# Altium integrated library con-molex.IntLib: 368 symbols (part 3 of 6)

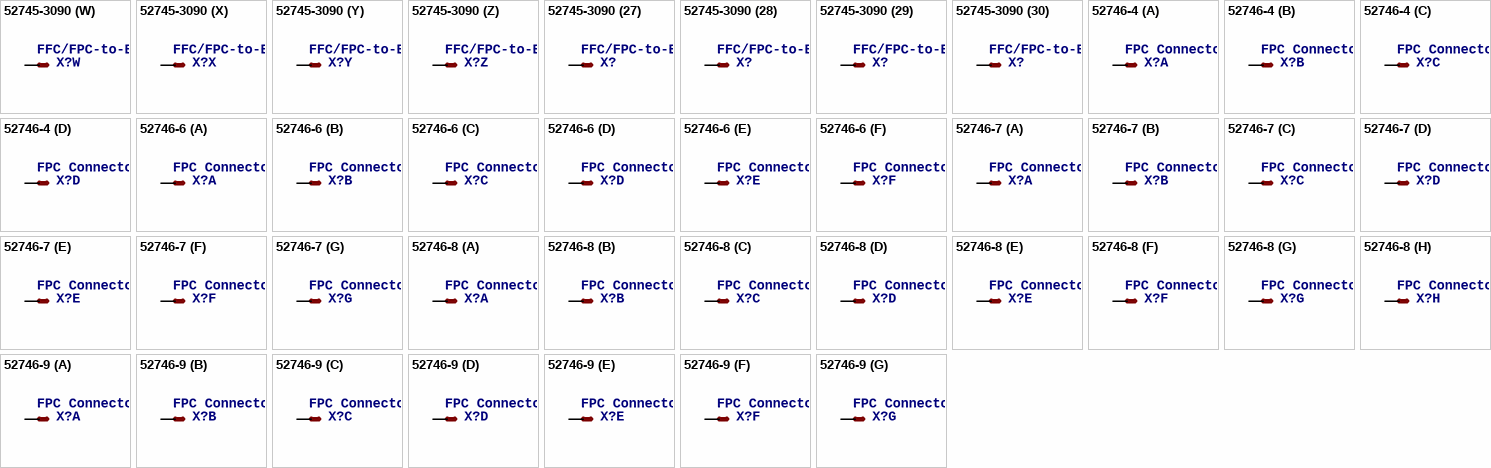
[diagram p46: symbols 52745-3090 to 52746-9]

## 52745-3090
designator X?, comment FFC/FPC-to-Board  0.50mm (.020") SMT Top Contact   Right Angle, ZIF, Style Receptacle 52745 / 52435 Source: http://www.molex.com/product/ffc/52745.html
OC_FARNELL: unknown; OC_NEWARK: unknown
footprint 52745-3090
part A pins: 1 S
part B pins: 2 S
part C pins: 3 S
part D pins: 4 S
part E pins: 5 S
part F pins: 6 S
part G pins: 7 S
part H pins: 8 S
part I pins: 9 S
part J pins: 10 S
part K pins: 11 S
part L pins: 12 S
part M pins: 13 S
part N pins: 14 S
part O pins: 15 S
part P pins: 16 S
part Q pins: 17 S
part R pins: 18 S
part S pins: 19 S
part T pins: 20 S
part U pins: 21 S
part V pins: 22 S
part W pins: 23 S
part X pins: 24 S
part Y pins: 25 S
part Z pins: 26 S
part 27 pins: 27 S
part 28 pins: 28 S
part 29 pins: 29 S
part 30 pins: 30 S

## 52746-4
designator X?, comment FPC Connector ZIF for SMT 0.5mm   Source: http://www.farnell.com/datasheets/73044.pdf [DWG. NO. (Sheet 1 OF 2) SD-52746-**17]
MPN: 52746-442; OC_FARNELL: unknown; OC_NEWARK: 55R0391
footprint 52746-4
part A pins: 1 S
part B pins: 2 S
part C pins: 3 S
part D pins: 4 S

## 52746-6
designator X?, comment FPC Connector ZIF for SMT 0.5mm   Source: http://www.farnell.com/datasheets/73044.pdf [DWG. NO. (Sheet 1 OF 2) SD-52746-**17]
OC_FARNELL: unknown; OC_NEWARK: unknown
footprint 52746-6
part A pins: 1 S
part B pins: 2 S
part C pins: 3 S
part D pins: 4 S
part E pins: 5 S
part F pins: 6 S

## 52746-7
designator X?, comment FPC Connector ZIF for SMT 0.5mm   Source: http://www.farnell.com/datasheets/73044.pdf [DWG. NO. (Sheet 1 OF 2) SD-52746-**17]
OC_FARNELL: unknown; OC_NEWARK: unknown
footprint 52746-7
part A pins: 1 S
part B pins: 2 S
part C pins: 3 S
part D pins: 4 S
part E pins: 5 S
part F pins: 6 S
part G pins: 7 S

## 52746-8
designator X?, comment FPC Connector ZIF for SMT 0.5mm   Source: http://www.farnell.com/datasheets/73044.pdf [DWG. NO. (Sheet 1 OF 2) SD-52746-**17]
OC_FARNELL: unknown; OC_NEWARK: unknown
footprint 52746-8
part A pins: 1 S
part B pins: 2 S
part C pins: 3 S
part D pins: 4 S
part E pins: 5 S
part F pins: 6 S
part G pins: 7 S
part H pins: 8 S

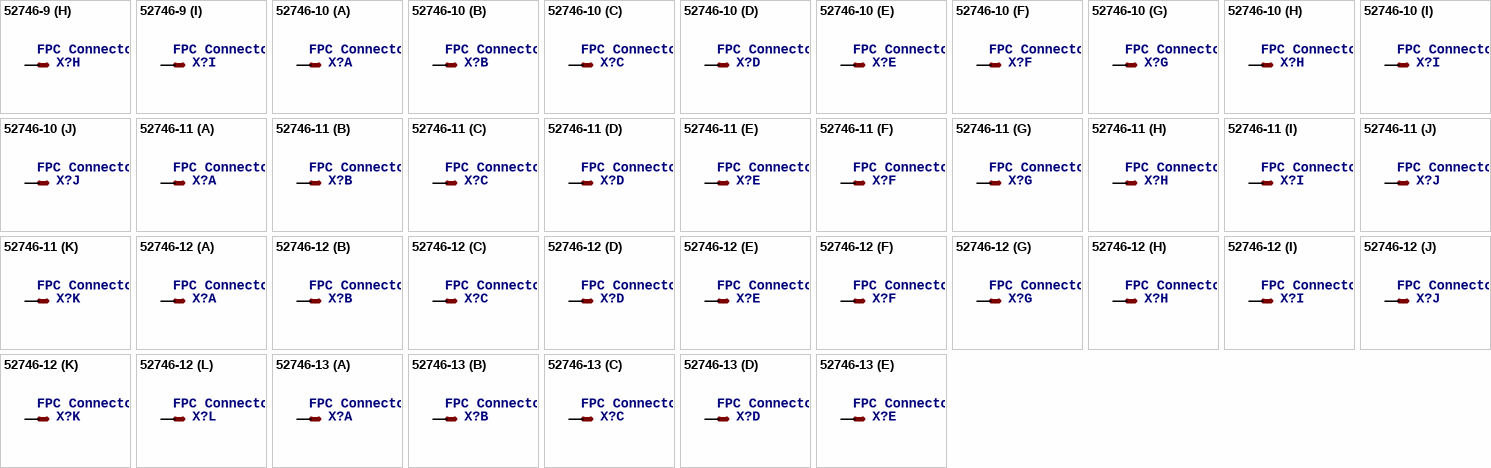
[diagram p47: symbols 52746-9 to 52746-13]

## 52746-9
designator X?, comment FPC Connector ZIF for SMT 0.5mm   Source: http://www.farnell.com/datasheets/73044.pdf [DWG. NO. (Sheet 1 OF 2) SD-52746-**17]
OC_FARNELL: unknown; OC_NEWARK: unknown
footprint 52746-9
part A pins: 1 S
part B pins: 2 S
part C pins: 3 S
part D pins: 4 S
part E pins: 5 S
part F pins: 6 S
part G pins: 7 S
part H pins: 8 S
part I pins: 9 S

## 52746-10
designator X?, comment FPC Connector ZIF for SMT 0.5mm   Source: http://www.farnell.com/datasheets/73044.pdf [DWG. NO. (Sheet 1 OF 2) SD-52746-**17]
OC_FARNELL: 1827154; OC_NEWARK: unknown
footprint 52746-10
part A pins: 1 S
part B pins: 2 S
part C pins: 3 S
part D pins: 4 S
part E pins: 5 S
part F pins: 6 S
part G pins: 7 S
part H pins: 8 S
part I pins: 9 S
part J pins: 10 S

## 52746-11
designator X?, comment FPC Connector ZIF for SMT 0.5mm   Source: http://www.farnell.com/datasheets/73044.pdf [DWG. NO. (Sheet 1 OF 2) SD-52746-**17]
OC_FARNELL: unknown; OC_NEWARK: unknown
footprint 52746-11
part A pins: 1 S
part B pins: 2 S
part C pins: 3 S
part D pins: 4 S
part E pins: 5 S
part F pins: 6 S
part G pins: 7 S
part H pins: 8 S
part I pins: 9 S
part J pins: 10 S
part K pins: 11 S

## 52746-12
designator X?, comment FPC Connector ZIF for SMT 0.5mm   Source: http://www.farnell.com/datasheets/73044.pdf [DWG. NO. (Sheet 1 OF 2) SD-52746-**17]
OC_FARNELL: unknown; OC_NEWARK: unknown
footprint 52746-12
part A pins: 1 S
part B pins: 2 S
part C pins: 3 S
part D pins: 4 S
part E pins: 5 S
part F pins: 6 S
part G pins: 7 S
part H pins: 8 S
part I pins: 9 S
part J pins: 10 S
part K pins: 11 S
part L pins: 12 S

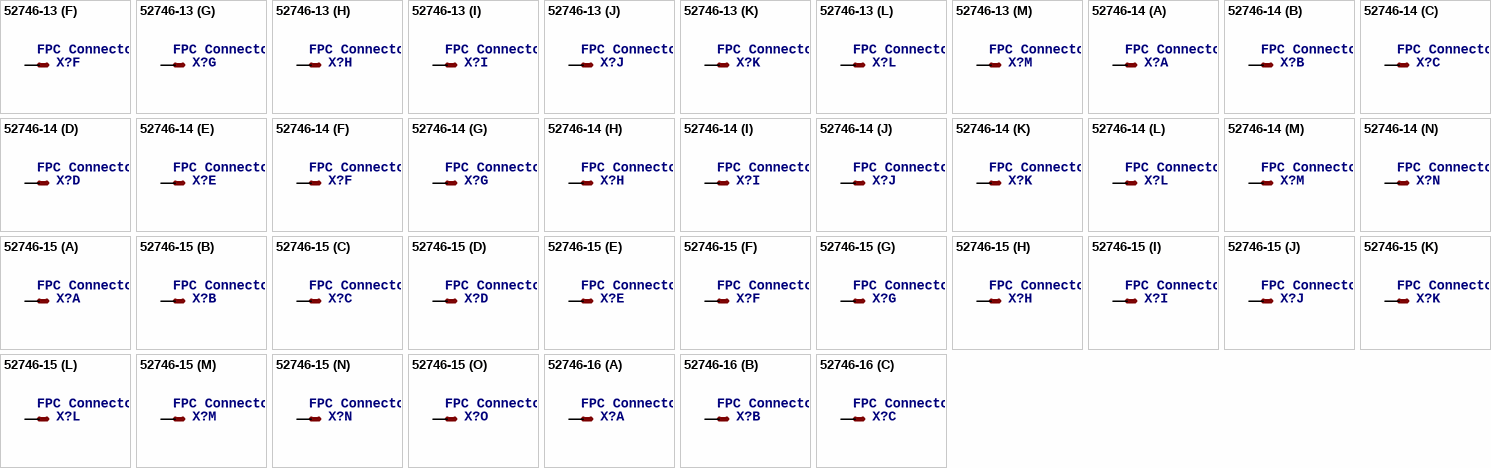
[diagram p48: symbols 52746-13 to 52746-16]

## 52746-13
designator X?, comment FPC Connector ZIF for SMT 0.5mm   Source: http://www.farnell.com/datasheets/73044.pdf [DWG. NO. (Sheet 1 OF 2) SD-52746-**17]
OC_FARNELL: unknown; OC_NEWARK: unknown
footprint 52746-13
part A pins: 1 S
part B pins: 2 S
part C pins: 3 S
part D pins: 4 S
part E pins: 5 S
part F pins: 6 S
part G pins: 7 S
part H pins: 8 S
part I pins: 9 S
part J pins: 10 S
part K pins: 11 S
part L pins: 12 S
part M pins: 13 S

## 52746-14
designator X?, comment FPC Connector ZIF for SMT 0.5mm   Source: http://www.farnell.com/datasheets/73044.pdf [DWG. NO. (Sheet 1 OF 2) SD-52746-**17]
OC_FARNELL: unknown; OC_NEWARK: unknown
footprint 52746-14
part A pins: 1 S
part B pins: 2 S
part C pins: 3 S
part D pins: 4 S
part E pins: 5 S
part F pins: 6 S
part G pins: 7 S
part H pins: 8 S
part I pins: 9 S
part J pins: 10 S
part K pins: 11 S
part L pins: 12 S
part M pins: 13 S
part N pins: 14 S

## 52746-15
designator X?, comment FPC Connector ZIF for SMT 0.5mm   Source: http://www.farnell.com/datasheets/73044.pdf [DWG. NO. (Sheet 1 OF 2) SD-52746-**17]
OC_FARNELL: unknown; OC_NEWARK: unknown
footprint 52746-15
part A pins: 1 S
part B pins: 2 S
part C pins: 3 S
part D pins: 4 S
part E pins: 5 S
part F pins: 6 S
part G pins: 7 S
part H pins: 8 S
part I pins: 9 S
part J pins: 10 S
part K pins: 11 S
part L pins: 12 S
part M pins: 13 S
part N pins: 14 S
part O pins: 15 S

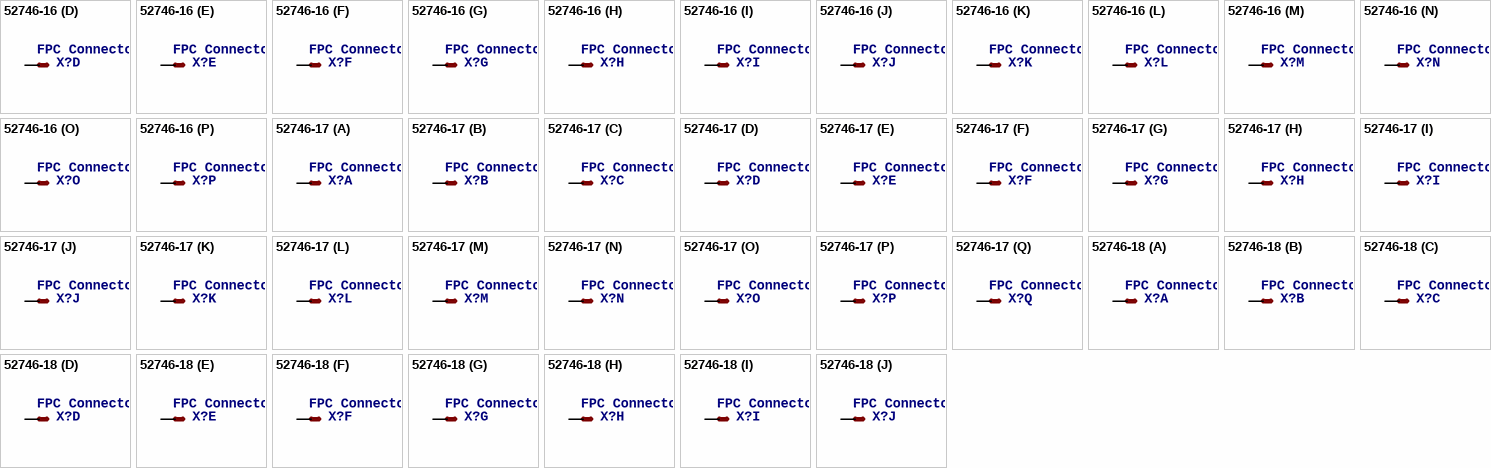
[diagram p49: symbols 52746-16 to 52746-18]

## 52746-16
designator X?, comment FPC Connector ZIF for SMT 0.5mm   Source: http://www.farnell.com/datasheets/73044.pdf [DWG. NO. (Sheet 1 OF 2) SD-52746-**17]
OC_FARNELL: unknown; OC_NEWARK: unknown
footprint 52746-16
part A pins: 1 S
part B pins: 2 S
part C pins: 3 S
part D pins: 4 S
part E pins: 5 S
part F pins: 6 S
part G pins: 7 S
part H pins: 8 S
part I pins: 9 S
part J pins: 10 S
part K pins: 11 S
part L pins: 12 S
part M pins: 13 S
part N pins: 14 S
part O pins: 15 S
part P pins: 16 S

## 52746-17
designator X?, comment FPC Connector ZIF for SMT 0.5mm   Source: http://www.farnell.com/datasheets/73044.pdf [DWG. NO. (Sheet 1 OF 2) SD-52746-**17]
MPN: 52746-1770; OC_FARNELL: unknown; OC_NEWARK: 92M6419
footprint 52746-17
part A pins: 1 S
part B pins: 2 S
part C pins: 3 S
part D pins: 4 S
part E pins: 5 S
part F pins: 6 S
part G pins: 7 S
part H pins: 8 S
part I pins: 9 S
part J pins: 10 S
part K pins: 11 S
part L pins: 12 S
part M pins: 13 S
part N pins: 14 S
part O pins: 15 S
part P pins: 16 S
part Q pins: 17 S

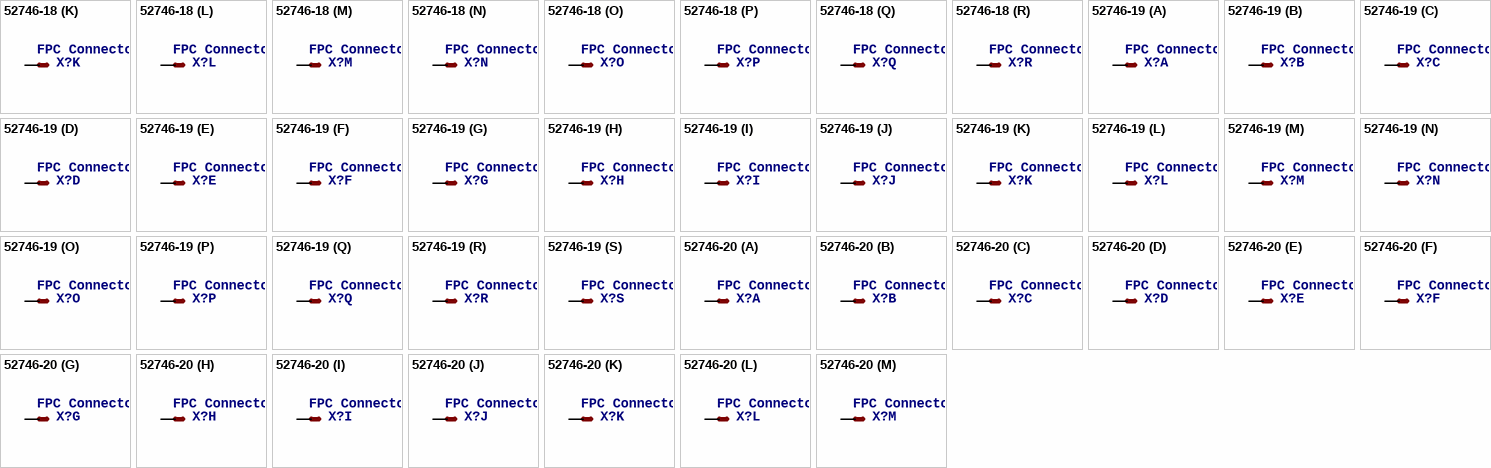
[diagram p50: symbols 52746-18 to 52746-20]

## 52746-18
designator X?, comment FPC Connector ZIF for SMT 0.5mm   Source: http://www.farnell.com/datasheets/73044.pdf [DWG. NO. (Sheet 1 OF 2) SD-52746-**17]
MPN: 52746-1870; OC_FARNELL: unknown; OC_NEWARK: 92M6420
footprint 52746-18
part A pins: 1 S
part B pins: 2 S
part C pins: 3 S
part D pins: 4 S
part E pins: 5 S
part F pins: 6 S
part G pins: 7 S
part H pins: 8 S
part I pins: 9 S
part J pins: 10 S
part K pins: 11 S
part L pins: 12 S
part M pins: 13 S
part N pins: 14 S
part O pins: 15 S
part P pins: 16 S
part Q pins: 17 S
part R pins: 18 S

## 52746-19
designator X?, comment FPC Connector ZIF for SMT 0.5mm   Source: http://www.farnell.com/datasheets/73044.pdf [DWG. NO. (Sheet 1 OF 2) SD-52746-**17]
MPN: 52746-1970; OC_FARNELL: unknown; OC_NEWARK: 92M6422
footprint 52746-19
part A pins: 1 S
part B pins: 2 S
part C pins: 3 S
part D pins: 4 S
part E pins: 5 S
part F pins: 6 S
part G pins: 7 S
part H pins: 8 S
part I pins: 9 S
part J pins: 10 S
part K pins: 11 S
part L pins: 12 S
part M pins: 13 S
part N pins: 14 S
part O pins: 15 S
part P pins: 16 S
part Q pins: 17 S
part R pins: 18 S
part S pins: 19 S

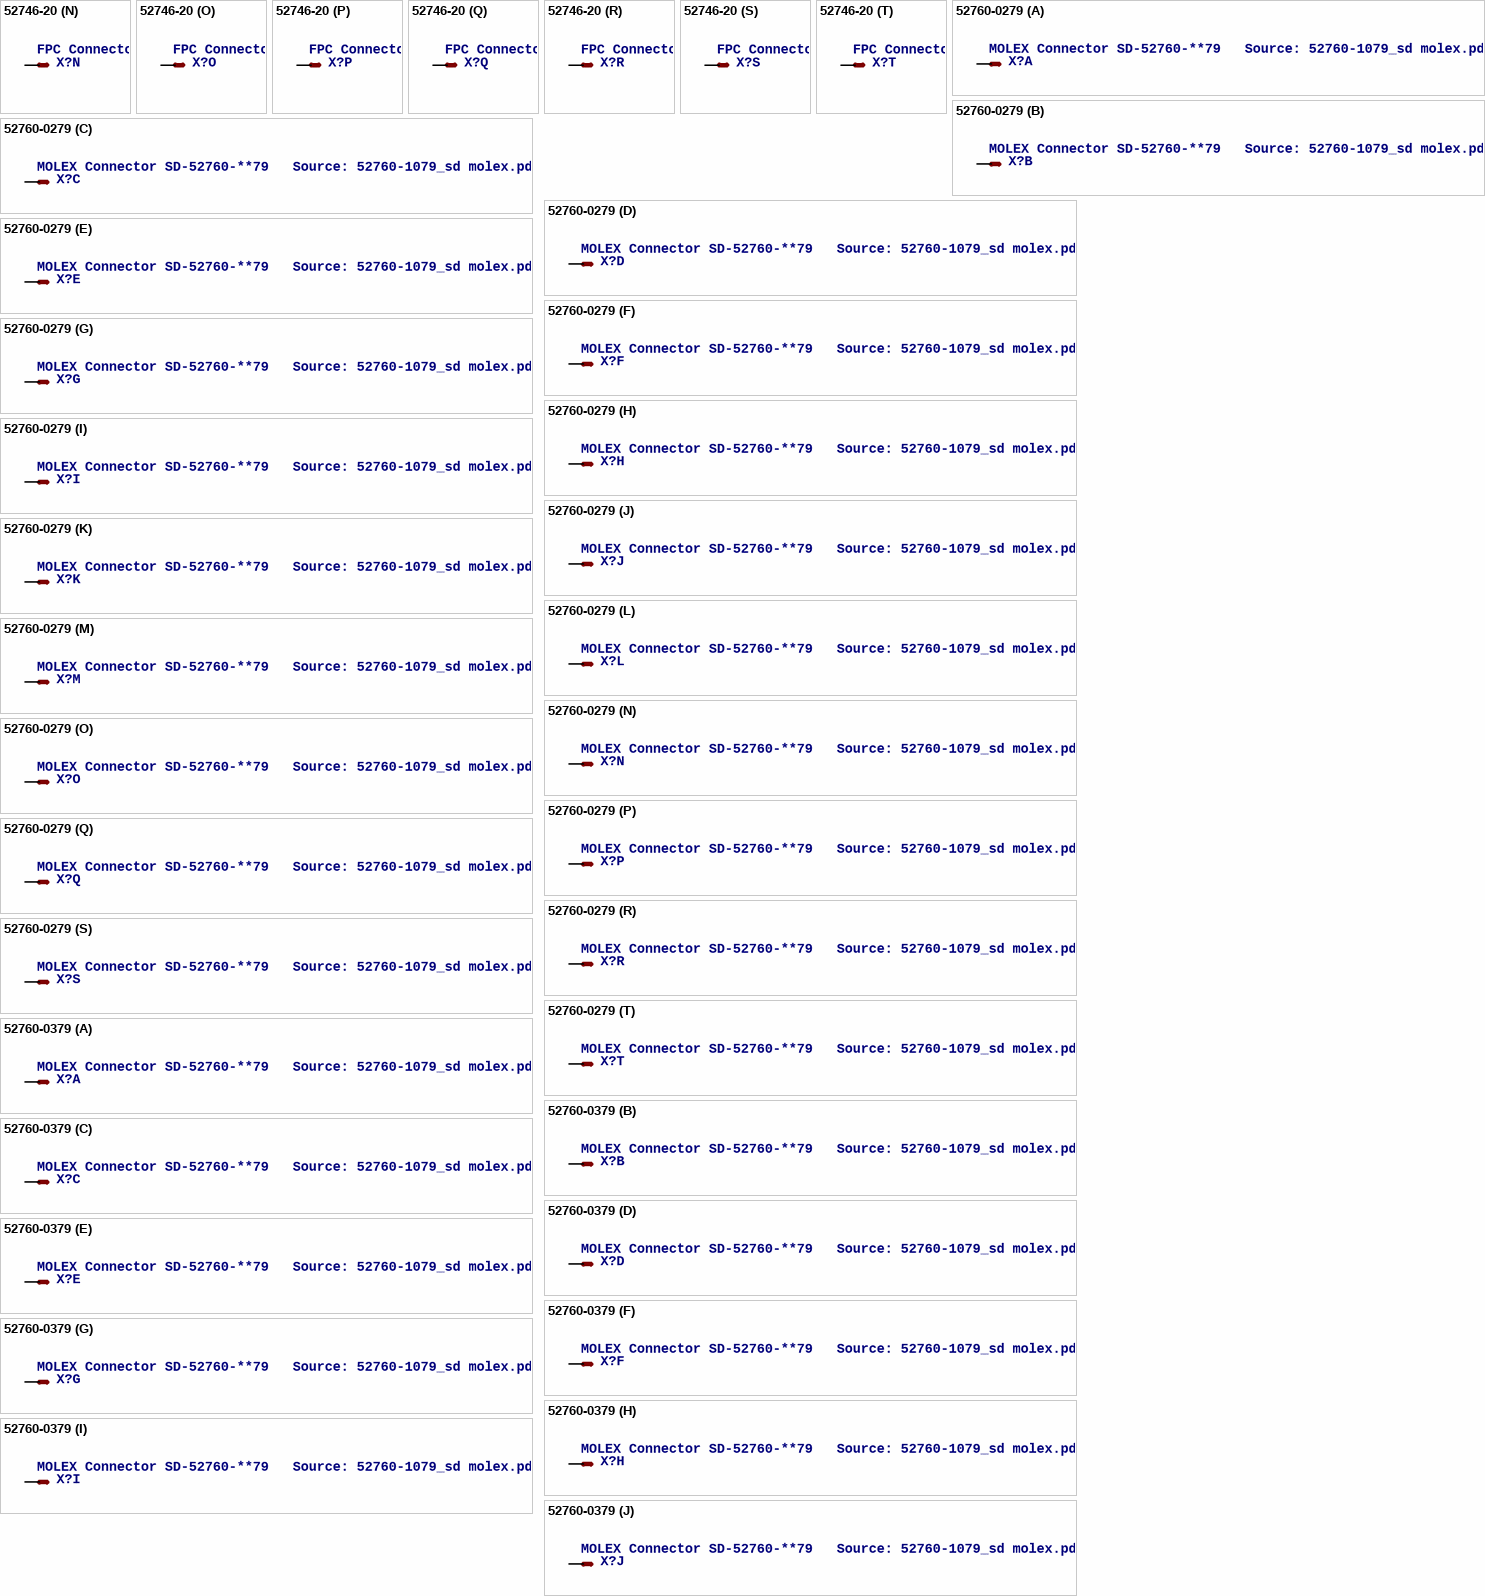
[diagram p51: symbols 52746-20 to 52760-0379]

## 52746-20
designator X?, comment FPC Connector ZIF for SMT 0.5mm   Source: http://www.farnell.com/datasheets/73044.pdf [DWG. NO. (Sheet 1 OF 2) SD-52746-**17] Distributor: Farnell 9786350
OC_FARNELL: 9786350; OC_NEWARK: unknown
footprint 52746-20
part A pins: 1 S
part B pins: 2 S
part C pins: 3 S
part D pins: 4 S
part E pins: 5 S
part F pins: 6 S
part G pins: 7 S
part H pins: 8 S
part I pins: 9 S
part J pins: 10 S
part K pins: 11 S
part L pins: 12 S
part M pins: 13 S
part N pins: 14 S
part O pins: 15 S
part P pins: 16 S
part Q pins: 17 S
part R pins: 18 S
part S pins: 19 S
part T pins: 20 S

## 52760-0279
designator X?, comment MOLEX Connector SD-52760-**79   Source: 52760-1079_sd molex.pdf
MPN: 52760-0279; OC_FARNELL: unknown; OC_NEWARK: 92M6430
footprint 52760-0279
part A pins: 1 S
part B pins: 2 S
part C pins: 3 S
part D pins: 4 S
part E pins: 5 S
part F pins: 6 S
part G pins: 7 S
part H pins: 8 S
part I pins: 9 S
part J pins: 10 S
part K pins: 11 S
part L pins: 12 S
part M pins: 13 S
part N pins: 14 S
part O pins: 15 S
part P pins: 16 S
part Q pins: 17 S
part R pins: 18 S
part S pins: 19 S
part T pins: 20 S

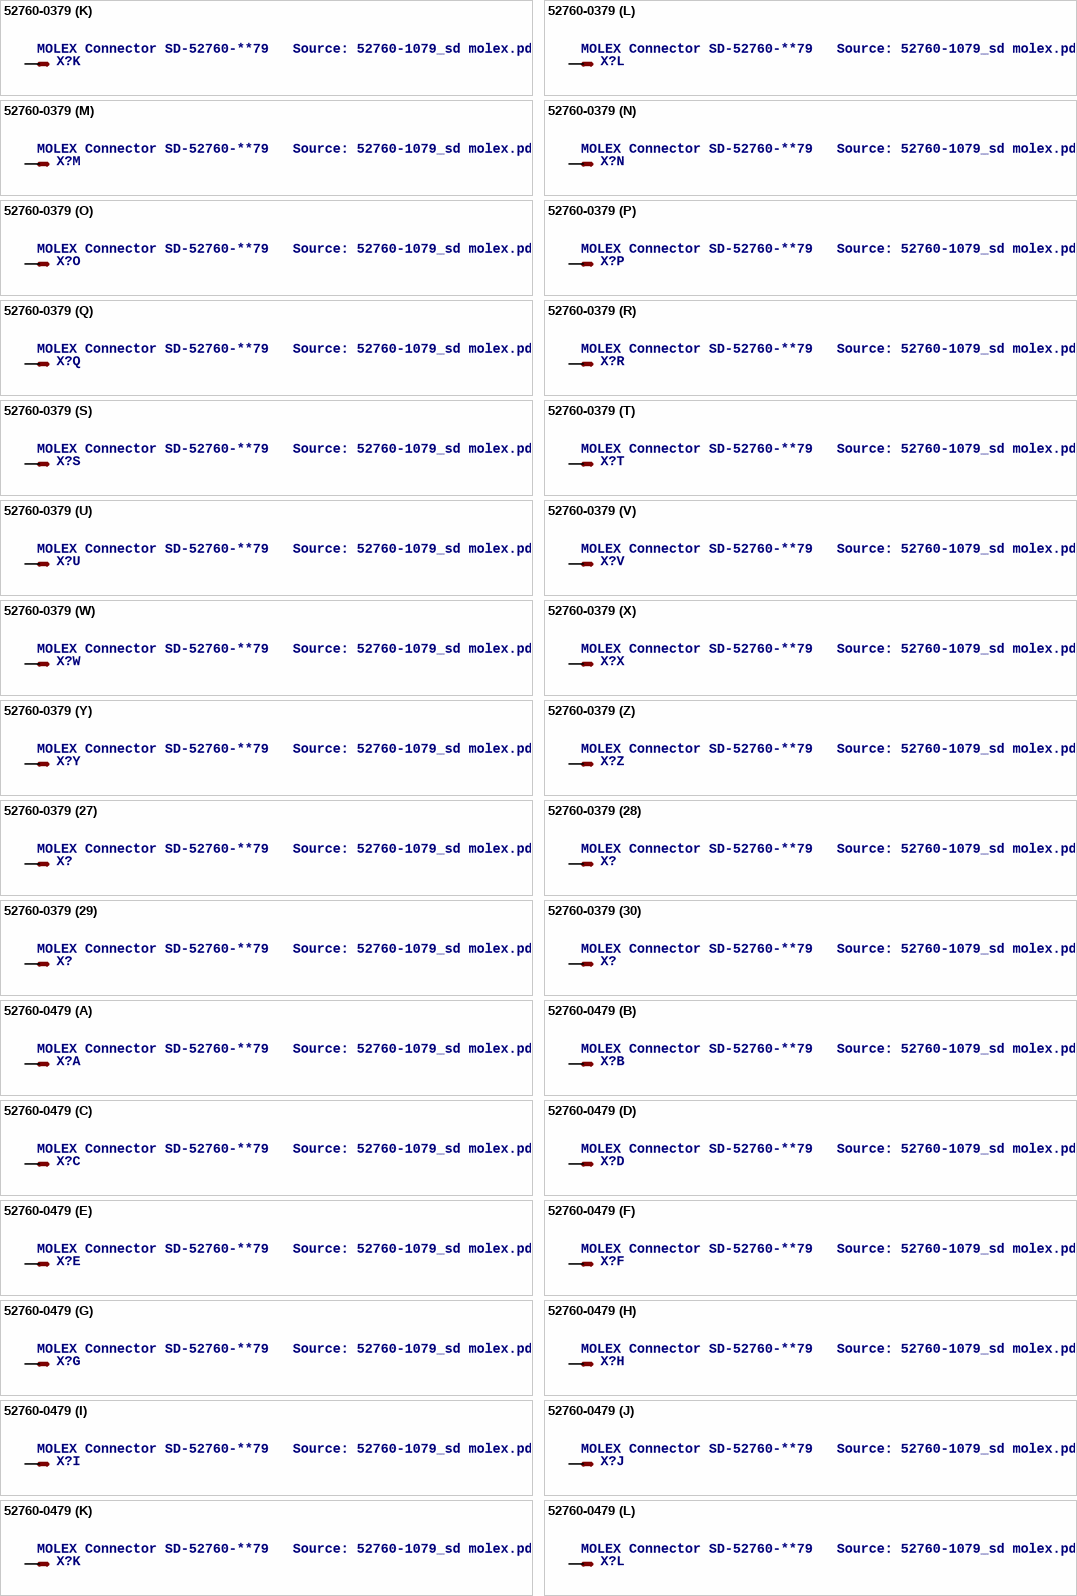
[diagram p52: symbols 52760-0379 to 52760-0479]

## 52760-0379
designator X?, comment MOLEX Connector SD-52760-**79   Source: 52760-1079_sd molex.pdf
MPN: 52760-0379; OC_FARNELL: unknown; OC_NEWARK: 92M6431
footprint 52760-0379
part A pins: 1 S
part B pins: 2 S
part C pins: 3 S
part D pins: 4 S
part E pins: 5 S
part F pins: 6 S
part G pins: 7 S
part H pins: 8 S
part I pins: 9 S
part J pins: 10 S
part K pins: 11 S
part L pins: 12 S
part M pins: 13 S
part N pins: 14 S
part O pins: 15 S
part P pins: 16 S
part Q pins: 17 S
part R pins: 18 S
part S pins: 19 S
part T pins: 20 S
part U pins: 21 S
part V pins: 22 S
part W pins: 23 S
part X pins: 24 S
part Y pins: 25 S
part Z pins: 26 S
part 27 pins: 27 S
part 28 pins: 28 S
part 29 pins: 29 S
part 30 pins: 30 S

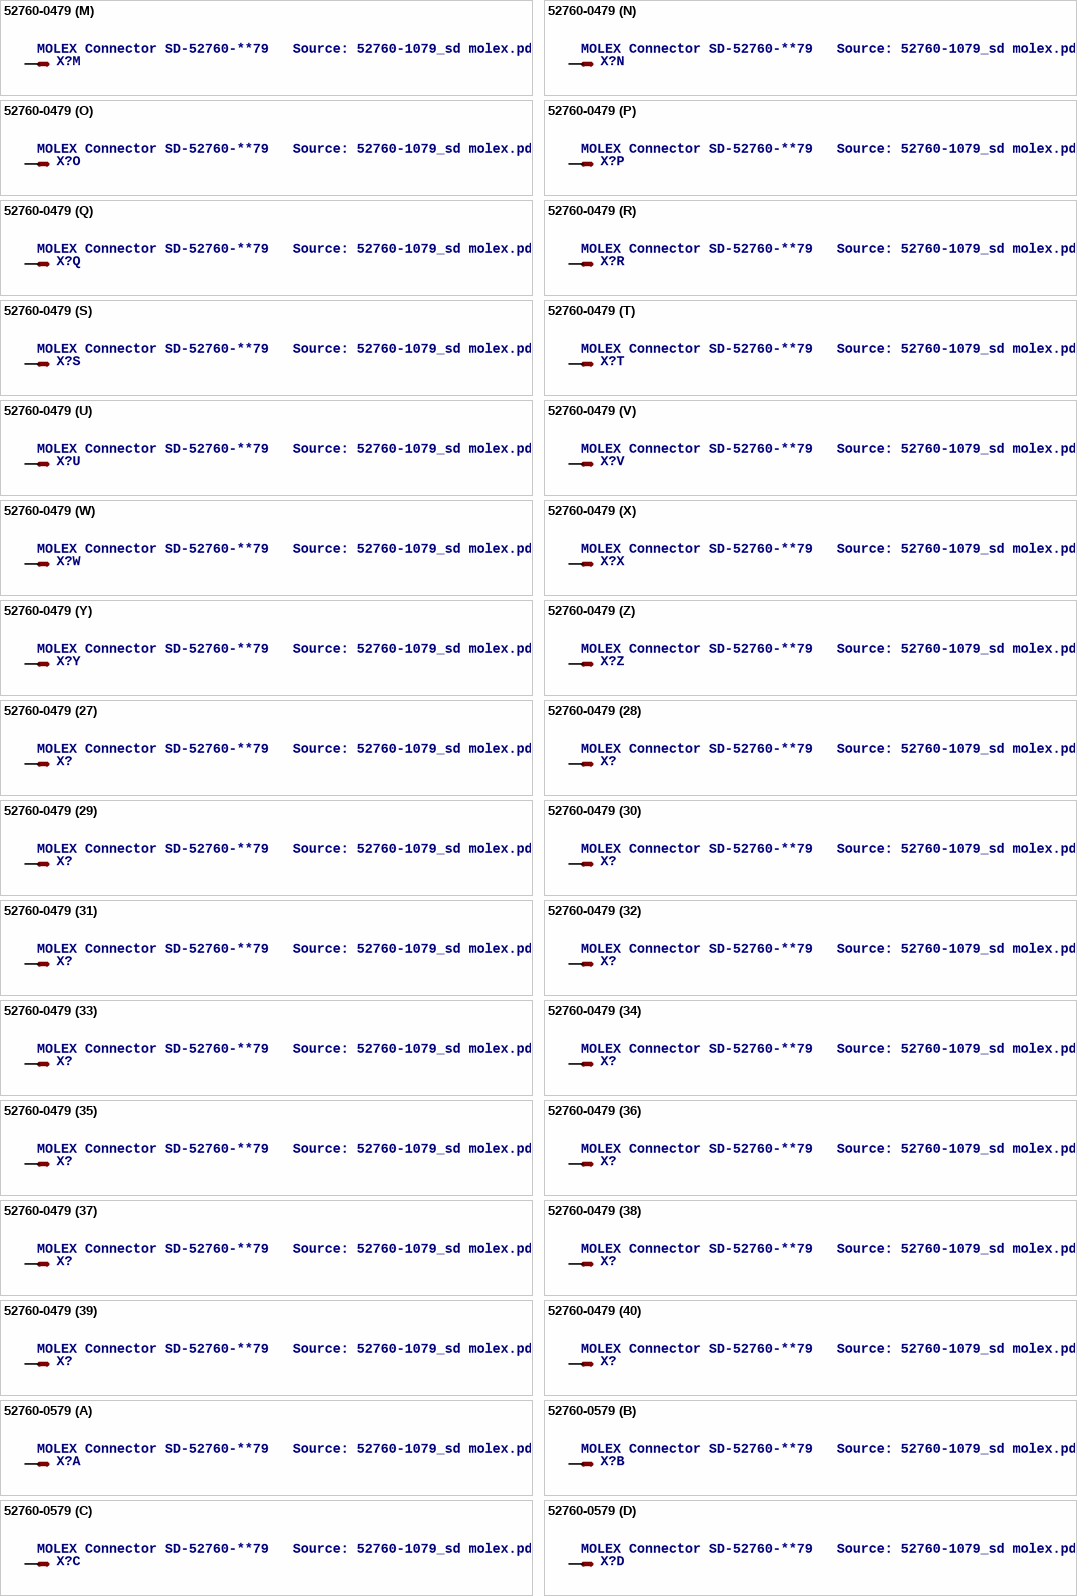
[diagram p53: symbols 52760-0479 to 52760-0579]

## 52760-0479
designator X?, comment MOLEX Connector SD-52760-**79   Source: 52760-1079_sd molex.pdf
OC_FARNELL: unknown; OC_NEWARK: unknown
footprint 52760-0479
part A pins: 1 S
part B pins: 2 S
part C pins: 3 S
part D pins: 4 S
part E pins: 5 S
part F pins: 6 S
part G pins: 7 S
part H pins: 8 S
part I pins: 9 S
part J pins: 10 S
part K pins: 11 S
part L pins: 12 S
part M pins: 13 S
part N pins: 14 S
part O pins: 15 S
part P pins: 16 S
part Q pins: 17 S
part R pins: 18 S
part S pins: 19 S
part T pins: 20 S
part U pins: 21 S
part V pins: 22 S
part W pins: 23 S
part X pins: 24 S
part Y pins: 25 S
part Z pins: 26 S
part 27 pins: 27 S
part 28 pins: 28 S
part 29 pins: 29 S
part 30 pins: 30 S
part 31 pins: 31 S
part 32 pins: 32 S
part 33 pins: 33 S
part 34 pins: 34 S
part 35 pins: 35 S
part 36 pins: 36 S
part 37 pins: 37 S
part 38 pins: 38 S
part 39 pins: 39 S
part 40 pins: 40 S

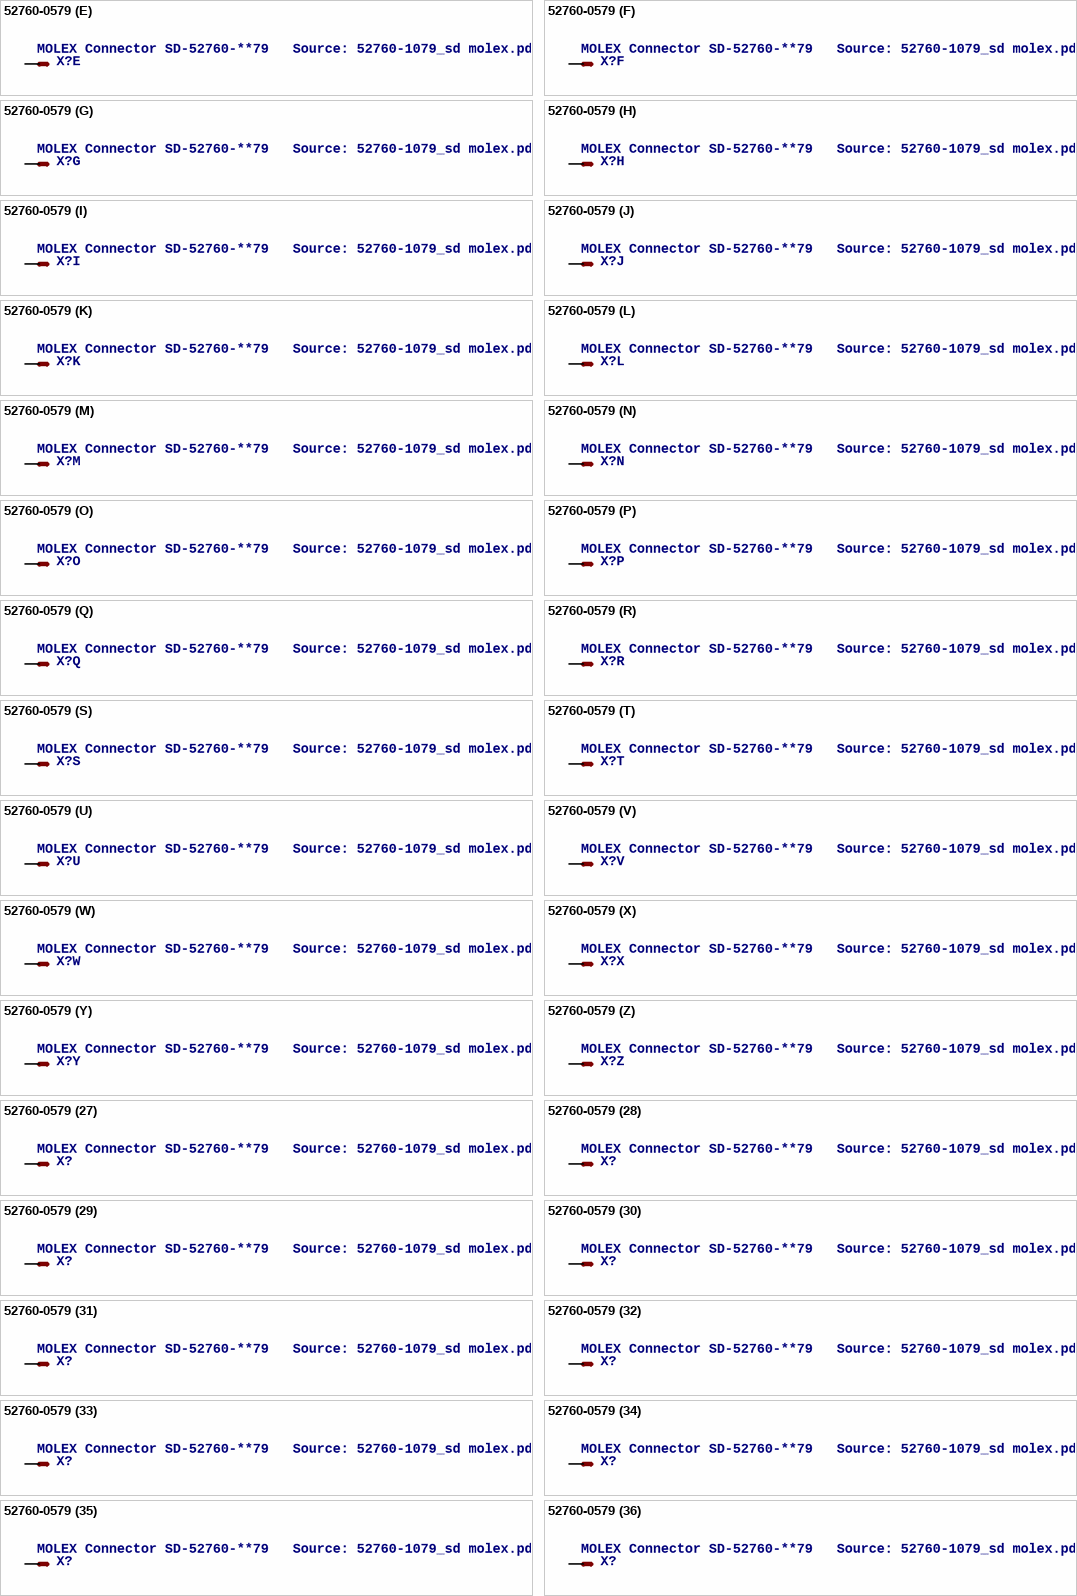
[diagram p54: symbol 52760-0579]

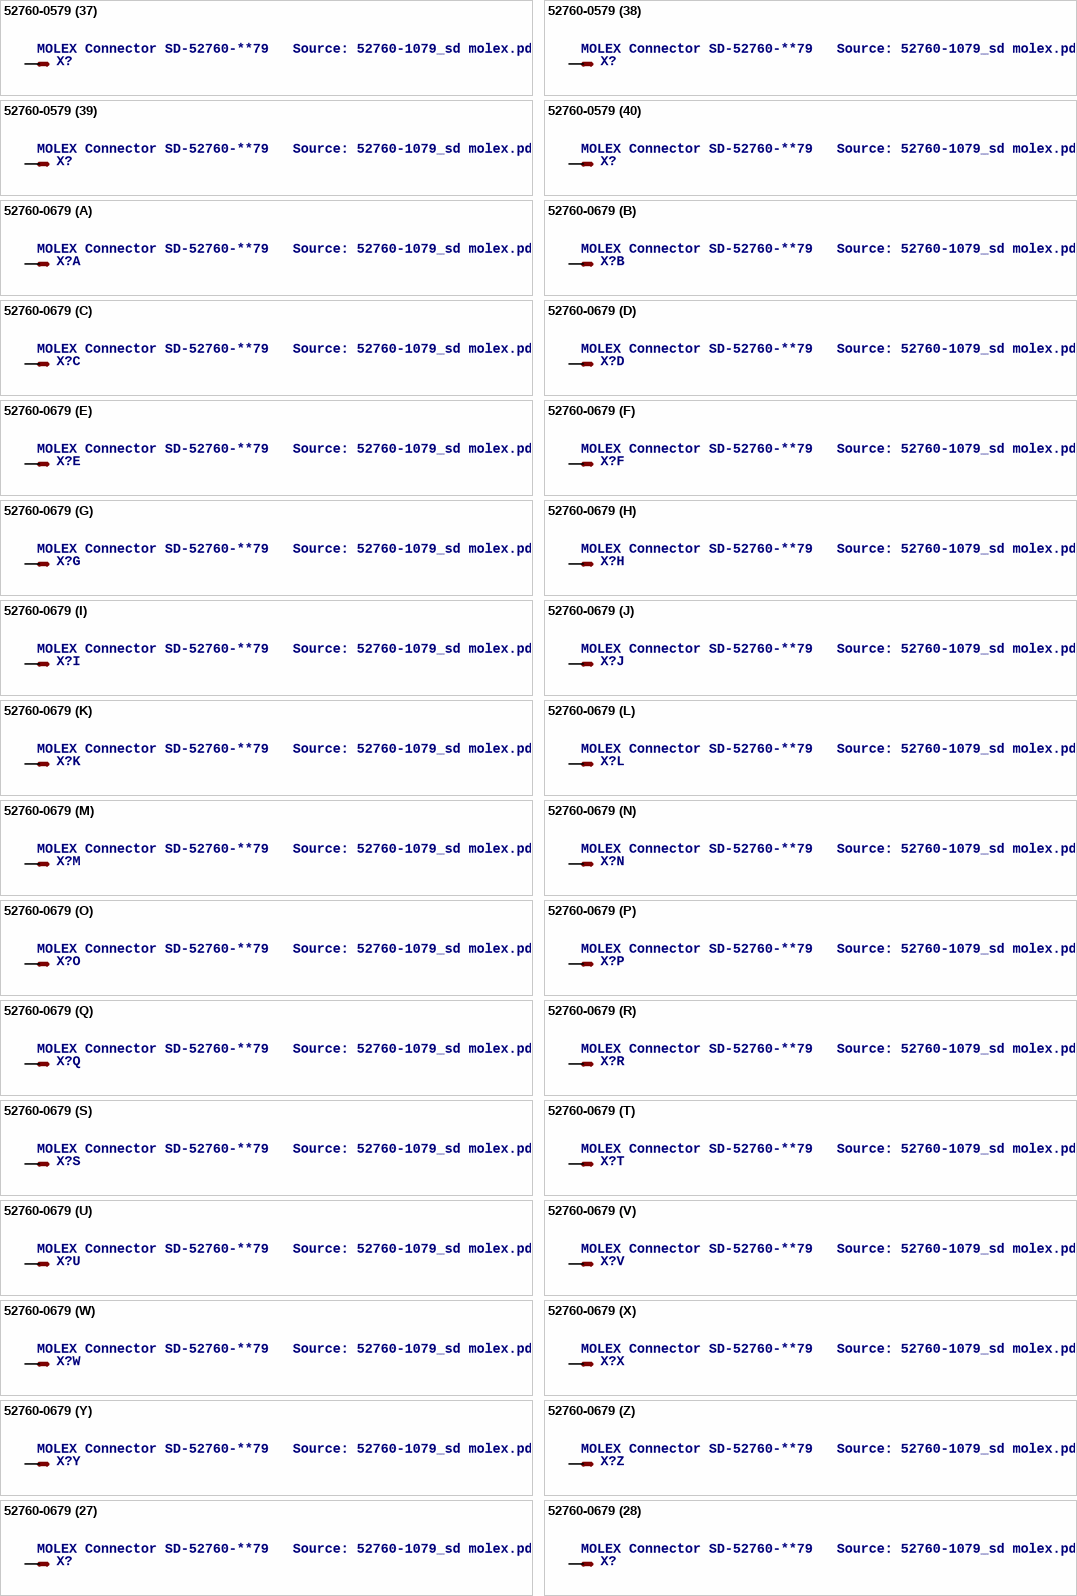
[diagram p55: symbols 52760-0579 to 52760-0679]

## 52760-0579
designator X?, comment MOLEX Connector SD-52760-**79   Source: 52760-1079_sd molex.pdf
OC_FARNELL: unknown; OC_NEWARK: unknown
footprint 52760-0579
part A pins: 1 S
part B pins: 2 S
part C pins: 3 S
part D pins: 4 S
part E pins: 5 S
part F pins: 6 S
part G pins: 7 S
part H pins: 8 S
part I pins: 9 S
part J pins: 10 S
part K pins: 11 S
part L pins: 12 S
part M pins: 13 S
part N pins: 14 S
part O pins: 15 S
part P pins: 16 S
part Q pins: 17 S
part R pins: 18 S
part S pins: 19 S
part T pins: 20 S
part U pins: 21 S
part V pins: 22 S
part W pins: 23 S
part X pins: 24 S
part Y pins: 25 S
part Z pins: 26 S
part 27 pins: 27 S
part 28 pins: 28 S
part 29 pins: 29 S
part 30 pins: 30 S
part 31 pins: 31 S
part 32 pins: 32 S
part 33 pins: 33 S
part 34 pins: 34 S
part 35 pins: 35 S
part 36 pins: 36 S
part 37 pins: 37 S
part 38 pins: 38 S
part 39 pins: 39 S
part 40 pins: 40 S
part 41 pins: 41 S
part 42 pins: 42 S
part 43 pins: 43 S
part 44 pins: 44 S
part 45 pins: 45 S
part 46 pins: 46 S
part 47 pins: 47 S
part 48 pins: 48 S
part 49 pins: 49 S
part 50 pins: 50 S

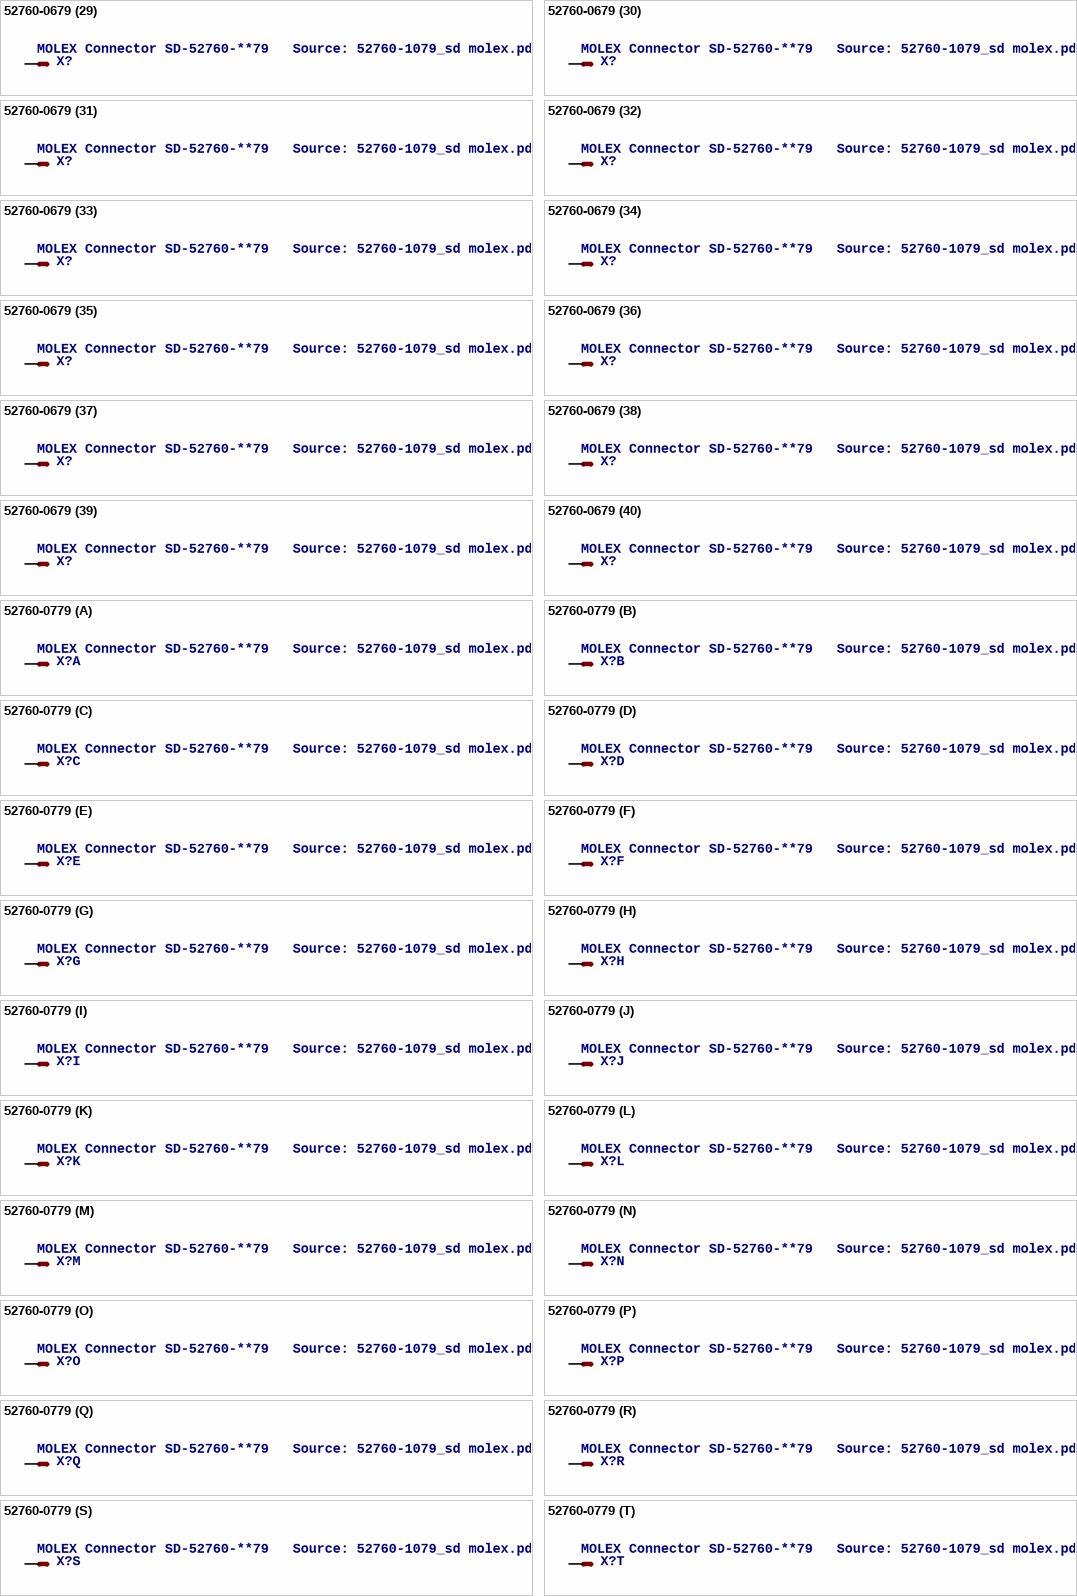
[diagram p56: symbols 52760-0679 to 52760-0779]

## 52760-0679
designator X?, comment MOLEX Connector SD-52760-**79   Source: 52760-1079_sd molex.pdf
OC_FARNELL: unknown; OC_NEWARK: unknown
footprint 52760-0679
part A pins: 1 S
part B pins: 2 S
part C pins: 3 S
part D pins: 4 S
part E pins: 5 S
part F pins: 6 S
part G pins: 7 S
part H pins: 8 S
part I pins: 9 S
part J pins: 10 S
part K pins: 11 S
part L pins: 12 S
part M pins: 13 S
part N pins: 14 S
part O pins: 15 S
part P pins: 16 S
part Q pins: 17 S
part R pins: 18 S
part S pins: 19 S
part T pins: 20 S
part U pins: 21 S
part V pins: 22 S
part W pins: 23 S
part X pins: 24 S
part Y pins: 25 S
part Z pins: 26 S
part 27 pins: 27 S
part 28 pins: 28 S
part 29 pins: 29 S
part 30 pins: 30 S
part 31 pins: 31 S
part 32 pins: 32 S
part 33 pins: 33 S
part 34 pins: 34 S
part 35 pins: 35 S
part 36 pins: 36 S
part 37 pins: 37 S
part 38 pins: 38 S
part 39 pins: 39 S
part 40 pins: 40 S
part 41 pins: 41 S
part 42 pins: 42 S
part 43 pins: 43 S
part 44 pins: 44 S
part 45 pins: 45 S
part 46 pins: 46 S
part 47 pins: 47 S
part 48 pins: 48 S
part 49 pins: 49 S
part 50 pins: 50 S
part 51 pins: 51 S
part 52 pins: 52 S
part 53 pins: 53 S
part 54 pins: 54 S
part 55 pins: 55 S
part 56 pins: 56 S
part 57 pins: 57 S
part 58 pins: 58 S
part 59 pins: 59 S
part 60 pins: 60 S

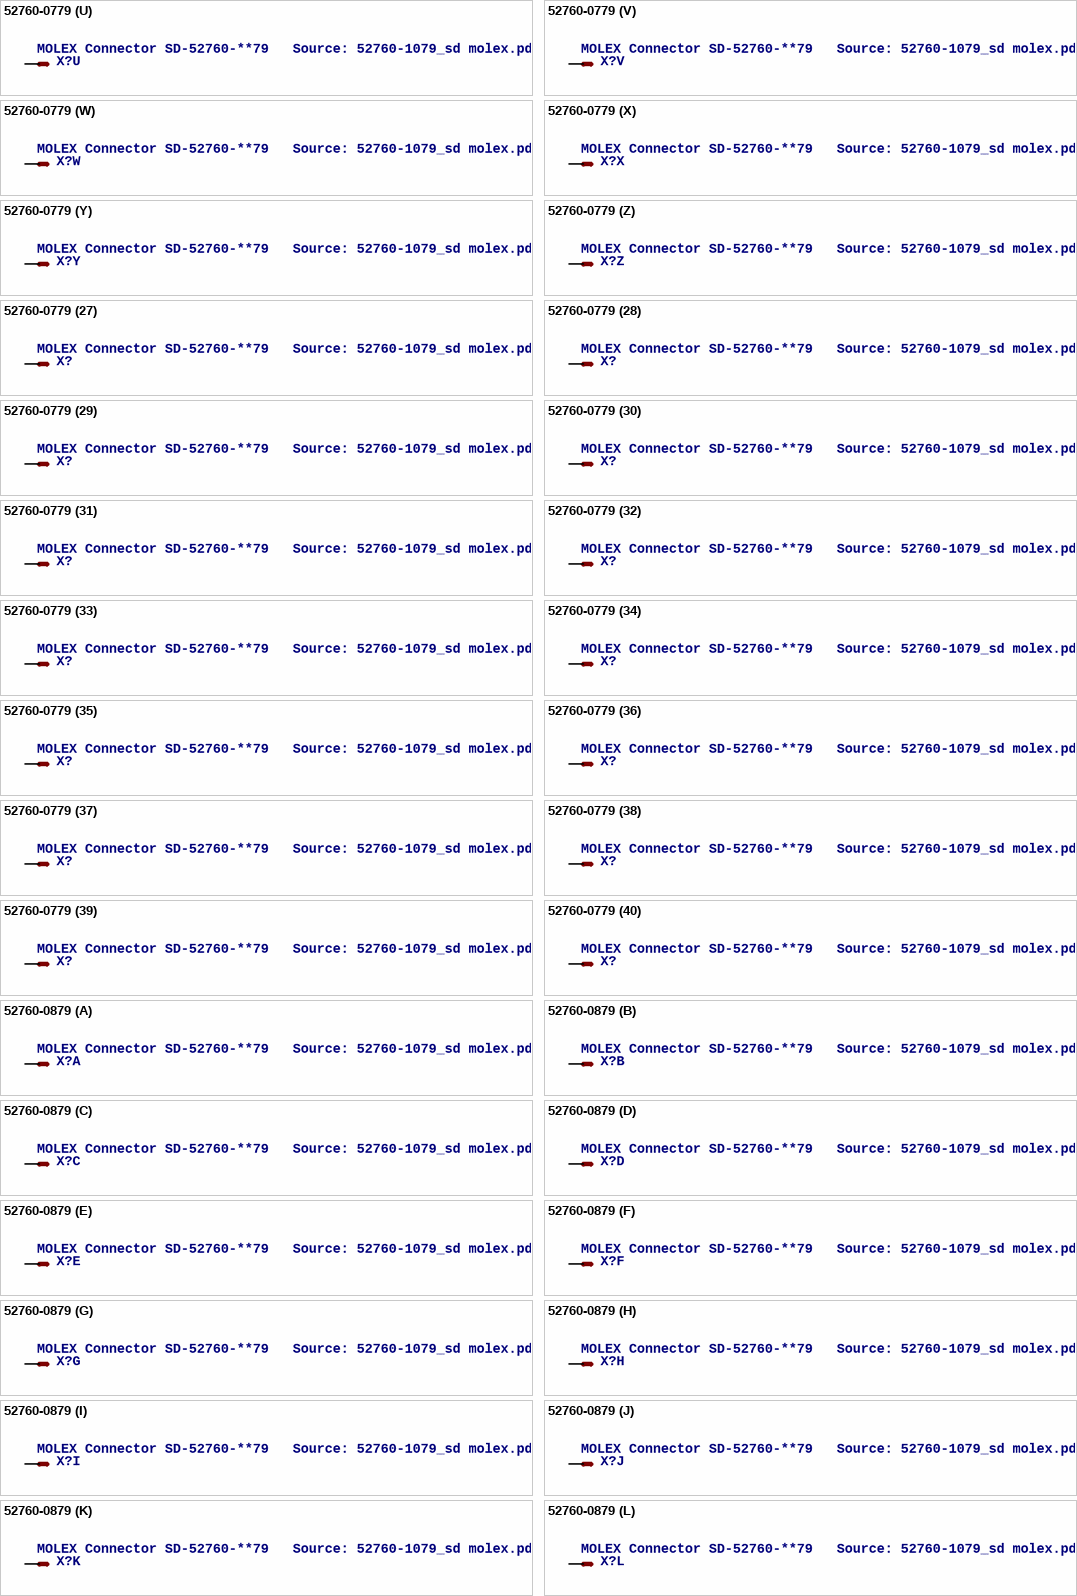
[diagram p57: symbols 52760-0779 to 52760-0879]

## 52760-0779
designator X?, comment MOLEX Connector SD-52760-**79   Source: 52760-1079_sd molex.pdf
OC_FARNELL: unknown; OC_NEWARK: unknown
footprint 52760-0779
part A pins: 1 S
part B pins: 2 S
part C pins: 3 S
part D pins: 4 S
part E pins: 5 S
part F pins: 6 S
part G pins: 7 S
part H pins: 8 S
part I pins: 9 S
part J pins: 10 S
part K pins: 11 S
part L pins: 12 S
part M pins: 13 S
part N pins: 14 S
part O pins: 15 S
part P pins: 16 S
part Q pins: 17 S
part R pins: 18 S
part S pins: 19 S
part T pins: 20 S
part U pins: 21 S
part V pins: 22 S
part W pins: 23 S
part X pins: 24 S
part Y pins: 25 S
part Z pins: 26 S
part 27 pins: 27 S
part 28 pins: 28 S
part 29 pins: 29 S
part 30 pins: 30 S
part 31 pins: 31 S
part 32 pins: 32 S
part 33 pins: 33 S
part 34 pins: 34 S
part 35 pins: 35 S
part 36 pins: 36 S
part 37 pins: 37 S
part 38 pins: 38 S
part 39 pins: 39 S
part 40 pins: 40 S
part 41 pins: 41 S
part 42 pins: 42 S
part 43 pins: 43 S
part 44 pins: 44 S
part 45 pins: 45 S
part 46 pins: 46 S
part 47 pins: 47 S
part 48 pins: 48 S
part 49 pins: 49 S
part 50 pins: 50 S
part 51 pins: 51 S
part 52 pins: 52 S
part 53 pins: 53 S
part 54 pins: 54 S
part 55 pins: 55 S
part 56 pins: 56 S
part 57 pins: 57 S
part 58 pins: 58 S
part 59 pins: 59 S
part 60 pins: 60 S
part 61 pins: 61 S
part 62 pins: 62 S
part 63 pins: 63 S
part 64 pins: 64 S
part 65 pins: 65 S
part 66 pins: 66 S
part 67 pins: 67 S
part 68 pins: 68 S
part 69 pins: 69 S
part 70 pins: 70 S

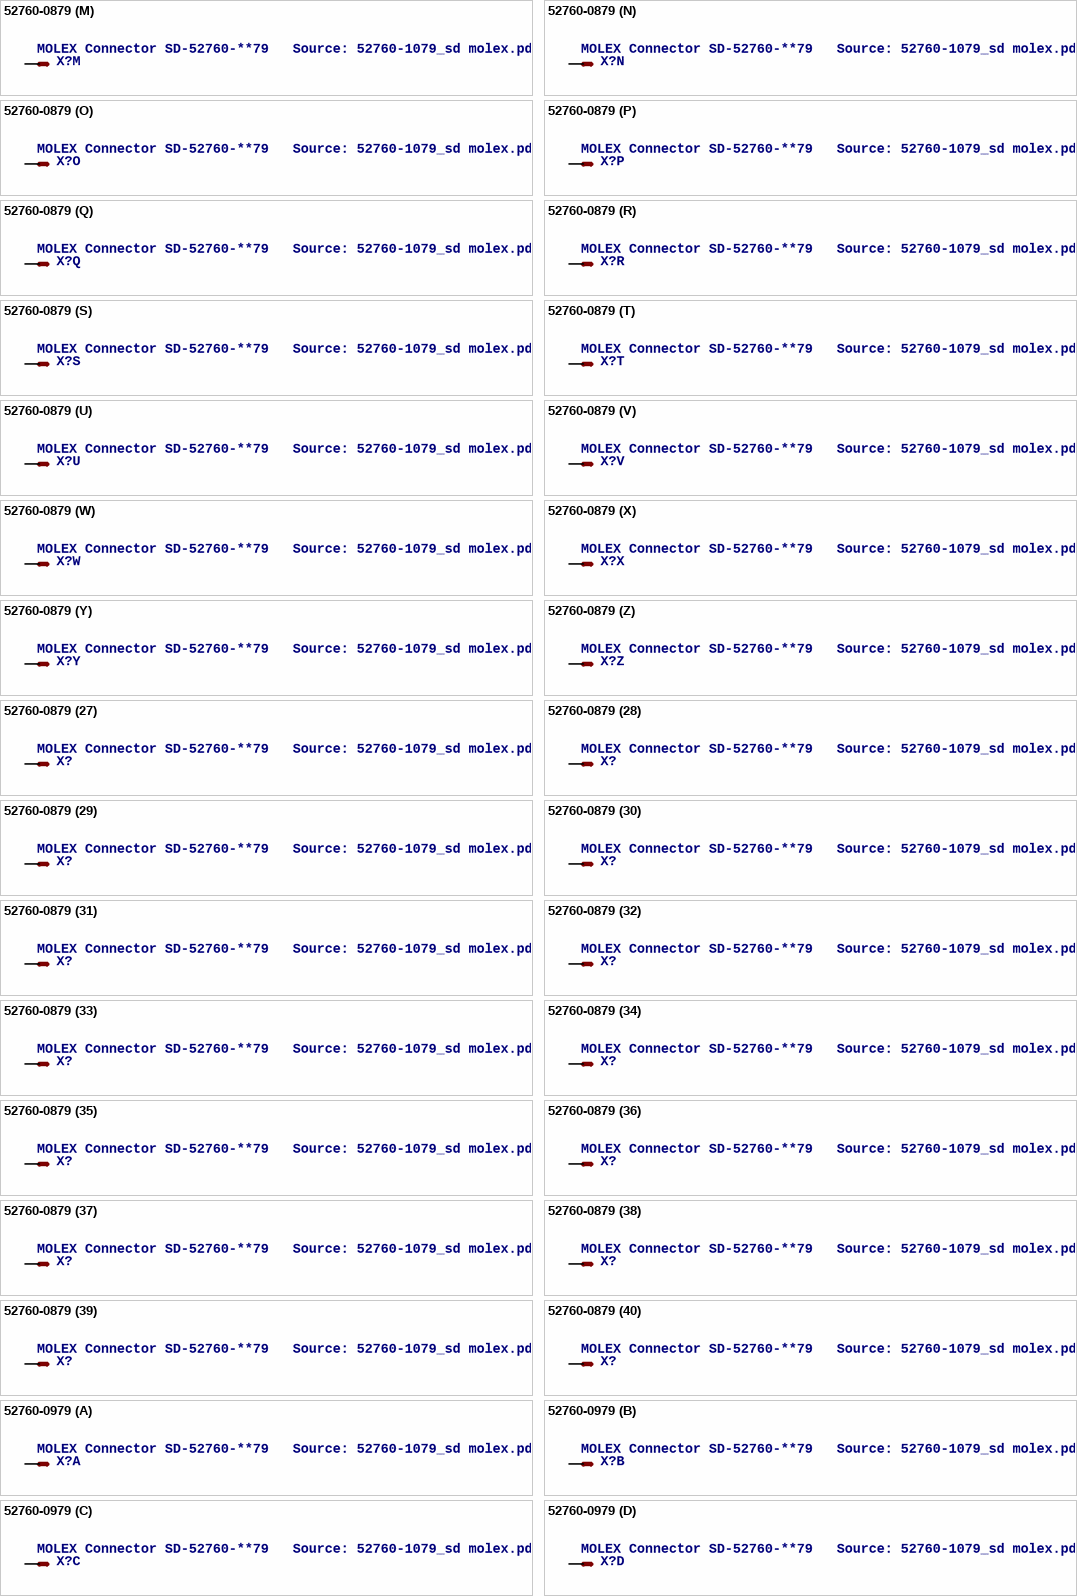
[diagram p58: symbols 52760-0879 to 52760-0979]

## 52760-0879
designator X?, comment MOLEX Connector SD-52760-**79   Source: 52760-1079_sd molex.pdf
OC_FARNELL: unknown; OC_NEWARK: unknown
footprint 52760-0879
part A pins: 1 S
part B pins: 2 S
part C pins: 3 S
part D pins: 4 S
part E pins: 5 S
part F pins: 6 S
part G pins: 7 S
part H pins: 8 S
part I pins: 9 S
part J pins: 10 S
part K pins: 11 S
part L pins: 12 S
part M pins: 13 S
part N pins: 14 S
part O pins: 15 S
part P pins: 16 S
part Q pins: 17 S
part R pins: 18 S
part S pins: 19 S
part T pins: 20 S
part U pins: 21 S
part V pins: 22 S
part W pins: 23 S
part X pins: 24 S
part Y pins: 25 S
part Z pins: 26 S
part 27 pins: 27 S
part 28 pins: 28 S
part 29 pins: 29 S
part 30 pins: 30 S
part 31 pins: 31 S
part 32 pins: 32 S
part 33 pins: 33 S
part 34 pins: 34 S
part 35 pins: 35 S
part 36 pins: 36 S
part 37 pins: 37 S
part 38 pins: 38 S
part 39 pins: 39 S
part 40 pins: 40 S
part 41 pins: 41 S
part 42 pins: 42 S
part 43 pins: 43 S
part 44 pins: 44 S
part 45 pins: 45 S
part 46 pins: 46 S
part 47 pins: 47 S
part 48 pins: 48 S
part 49 pins: 49 S
part 50 pins: 50 S
part 51 pins: 51 S
part 52 pins: 52 S
part 53 pins: 53 S
part 54 pins: 54 S
part 55 pins: 55 S
part 56 pins: 56 S
part 57 pins: 57 S
part 58 pins: 58 S
part 59 pins: 59 S
part 60 pins: 60 S
part 61 pins: 61 S
part 62 pins: 62 S
part 63 pins: 63 S
part 64 pins: 64 S
part 65 pins: 65 S
part 66 pins: 66 S
part 67 pins: 67 S
part 68 pins: 68 S
part 69 pins: 69 S
part 70 pins: 70 S
part 71 pins: 71 S
part 72 pins: 72 S
part 73 pins: 73 S
part 74 pins: 74 S
part 75 pins: 75 S
part 76 pins: 76 S
part 77 pins: 77 S
part 78 pins: 78 S
part 79 pins: 79 S
part 80 pins: 80 S

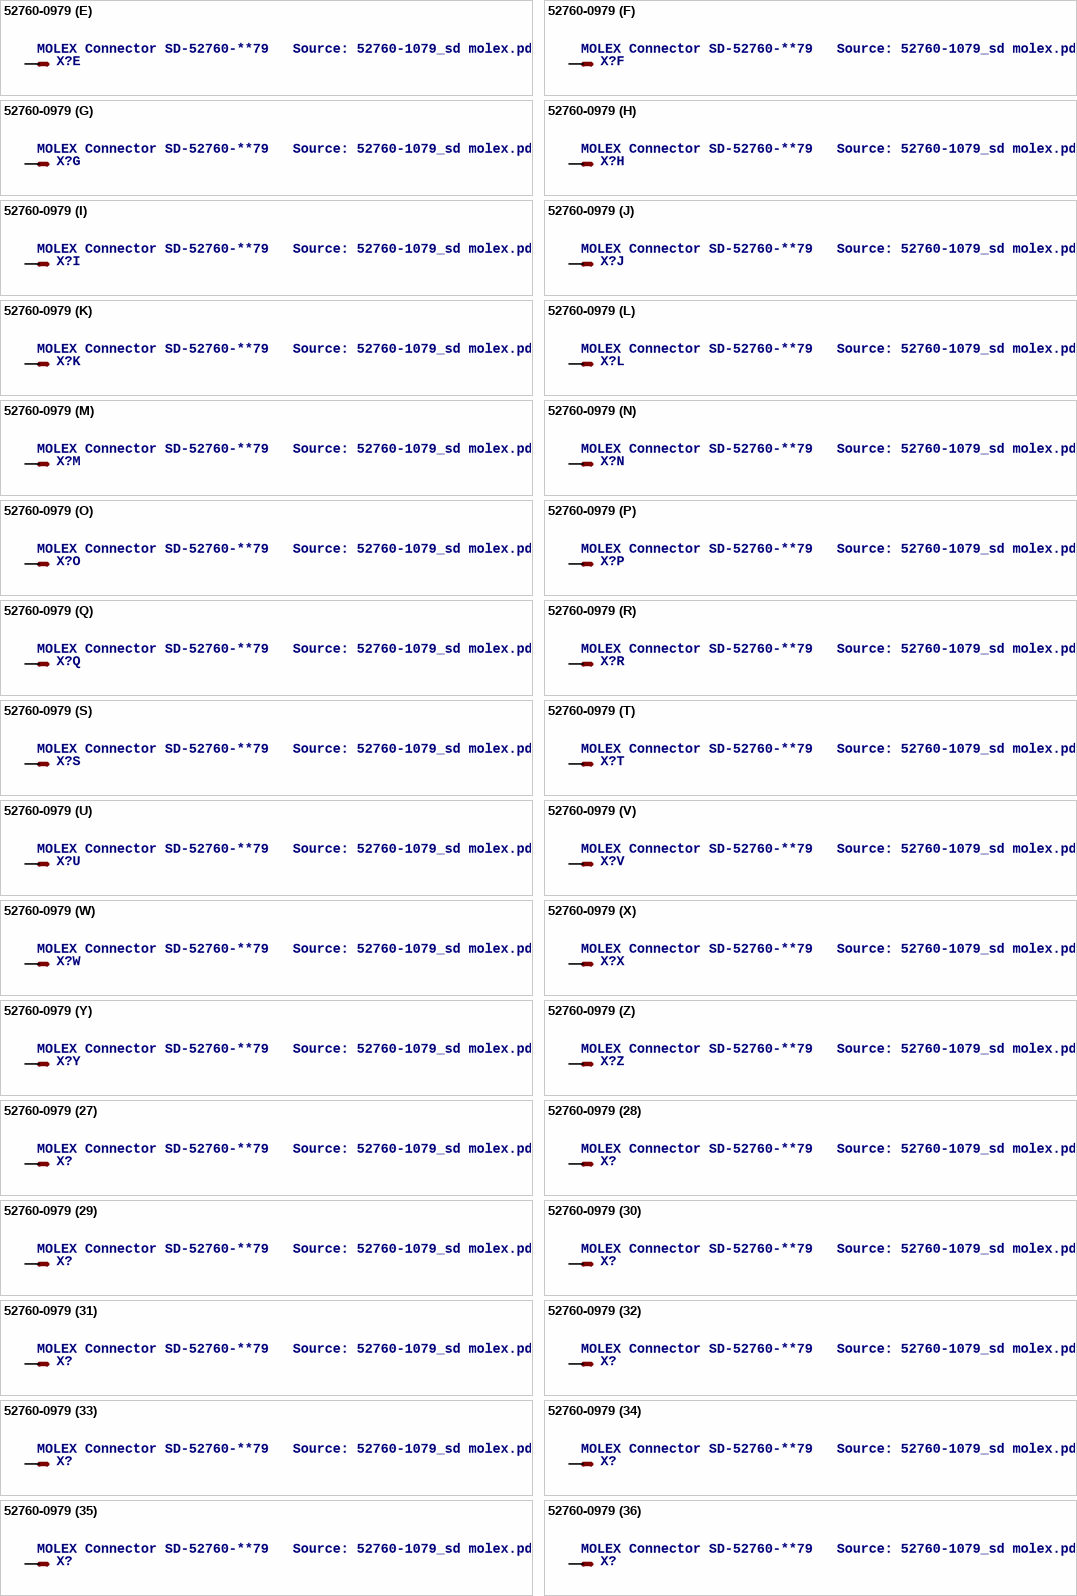
[diagram p59: symbol 52760-0979]

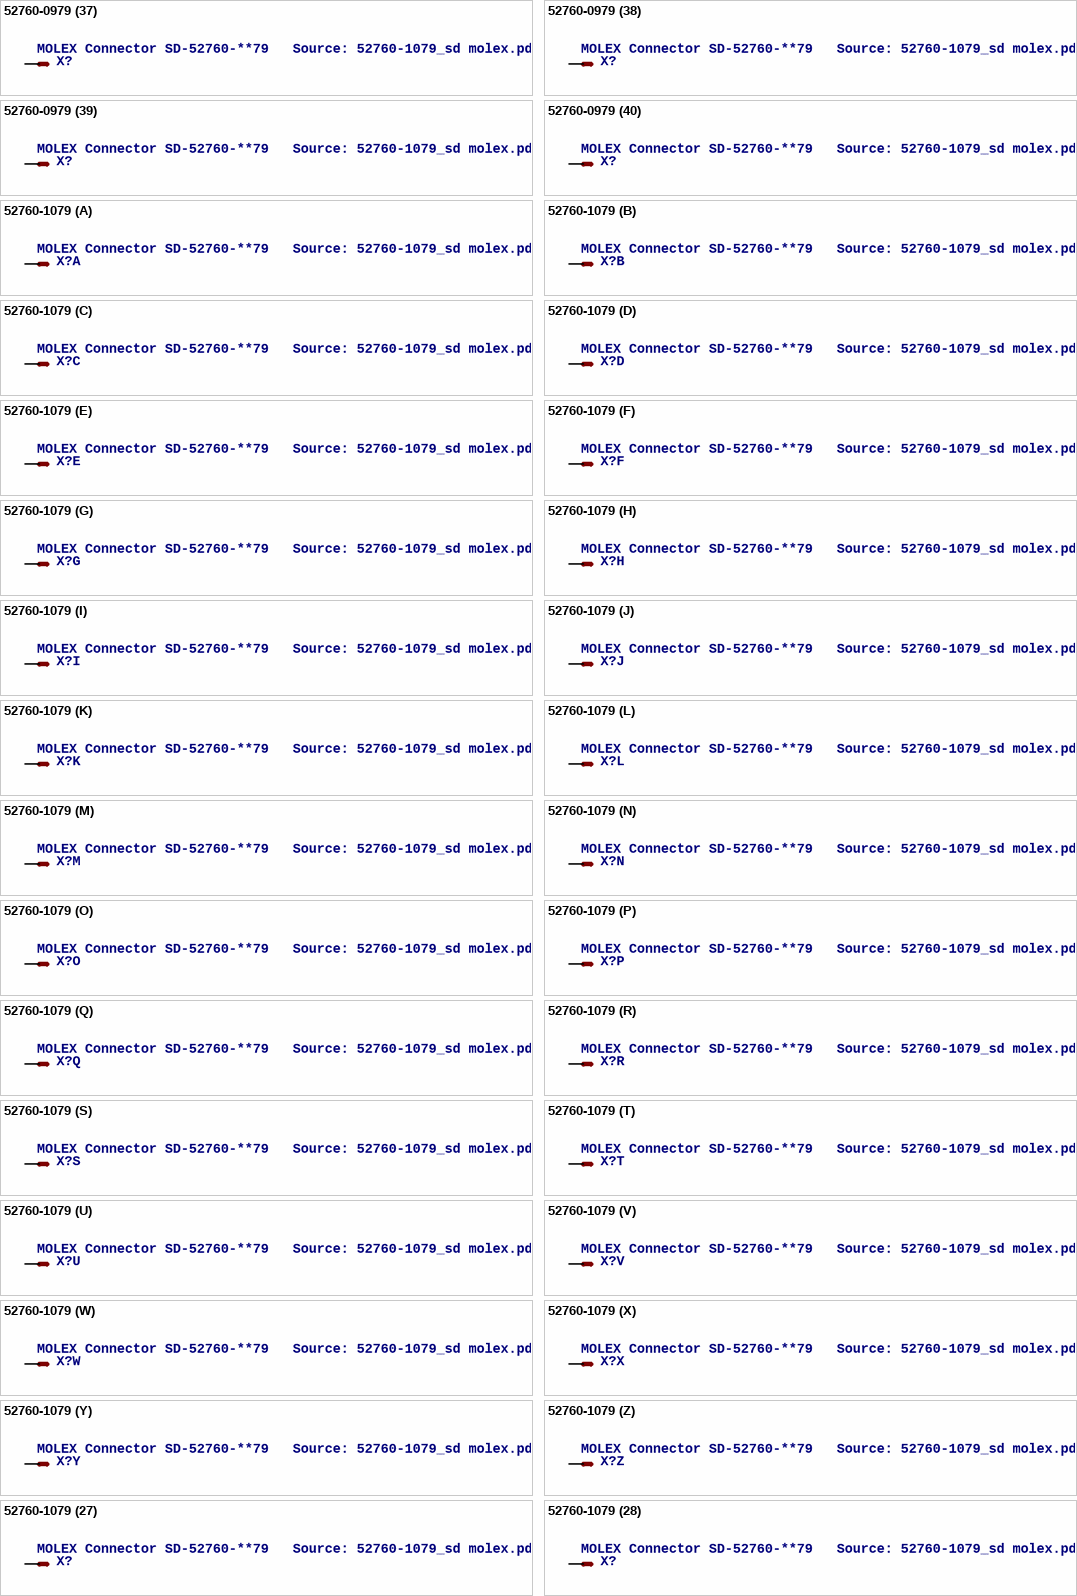
[diagram p60: symbols 52760-0979 to 52760-1079]

## 52760-0979
designator X?, comment MOLEX Connector SD-52760-**79   Source: 52760-1079_sd molex.pdf
MPN: 52760-0979; OC_FARNELL: unknown; OC_NEWARK: 92M6432
footprint 52760-0979
part A pins: 1 S
part B pins: 2 S
part C pins: 3 S
part D pins: 4 S
part E pins: 5 S
part F pins: 6 S
part G pins: 7 S
part H pins: 8 S
part I pins: 9 S
part J pins: 10 S
part K pins: 11 S
part L pins: 12 S
part M pins: 13 S
part N pins: 14 S
part O pins: 15 S
part P pins: 16 S
part Q pins: 17 S
part R pins: 18 S
part S pins: 19 S
part T pins: 20 S
part U pins: 21 S
part V pins: 22 S
part W pins: 23 S
part X pins: 24 S
part Y pins: 25 S
part Z pins: 26 S
part 27 pins: 27 S
part 28 pins: 28 S
part 29 pins: 29 S
part 30 pins: 30 S
part 31 pins: 31 S
part 32 pins: 32 S
part 33 pins: 33 S
part 34 pins: 34 S
part 35 pins: 35 S
part 36 pins: 36 S
part 37 pins: 37 S
part 38 pins: 38 S
part 39 pins: 39 S
part 40 pins: 40 S
part 41 pins: 41 S
part 42 pins: 42 S
part 43 pins: 43 S
part 44 pins: 44 S
part 45 pins: 45 S
part 46 pins: 46 S
part 47 pins: 47 S
part 48 pins: 48 S
part 49 pins: 49 S
part 50 pins: 50 S
part 51 pins: 51 S
part 52 pins: 52 S
part 53 pins: 53 S
part 54 pins: 54 S
part 55 pins: 55 S
part 56 pins: 56 S
part 57 pins: 57 S
part 58 pins: 58 S
part 59 pins: 59 S
part 60 pins: 60 S
part 61 pins: 61 S
part 62 pins: 62 S
part 63 pins: 63 S
part 64 pins: 64 S
part 65 pins: 65 S
part 66 pins: 66 S
part 67 pins: 67 S
part 68 pins: 68 S
part 69 pins: 69 S
part 70 pins: 70 S
part 71 pins: 71 S
part 72 pins: 72 S
part 73 pins: 73 S
part 74 pins: 74 S
part 75 pins: 75 S
part 76 pins: 76 S
part 77 pins: 77 S
part 78 pins: 78 S
part 79 pins: 79 S
part 80 pins: 80 S
part 81 pins: 81 S
part 82 pins: 82 S
part 83 pins: 83 S
part 84 pins: 84 S
part 85 pins: 85 S
part 86 pins: 86 S
part 87 pins: 87 S
part 88 pins: 88 S
part 89 pins: 89 S
part 90 pins: 90 S

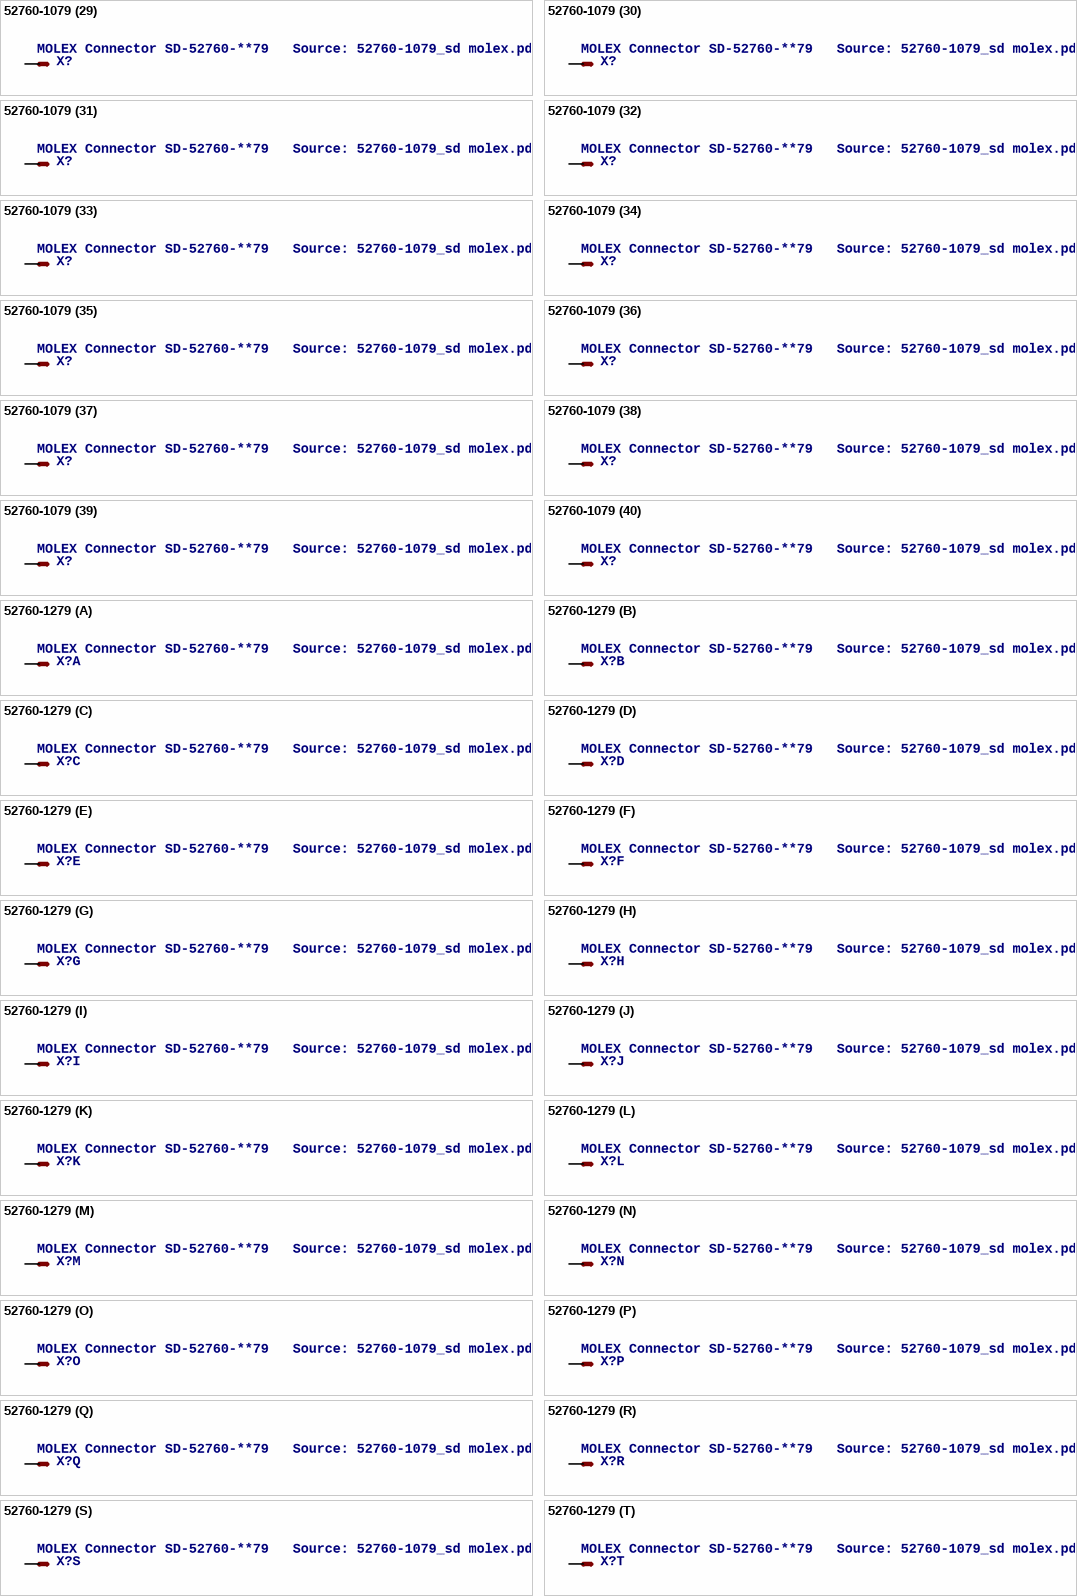
[diagram p61: symbols 52760-1079 to 52760-1279]

## 52760-1079
designator X?, comment MOLEX Connector SD-52760-**79   Source: 52760-1079_sd molex.pdf
MPN: 52760-1079; OC_FARNELL: unknown; OC_NEWARK: 92M6433
footprint 52760-1079
part A pins: 1 S
part B pins: 2 S
part C pins: 3 S
part D pins: 4 S
part E pins: 5 S
part F pins: 6 S
part G pins: 7 S
part H pins: 8 S
part I pins: 9 S
part J pins: 10 S
part K pins: 11 S
part L pins: 12 S
part M pins: 13 S
part N pins: 14 S
part O pins: 15 S
part P pins: 16 S
part Q pins: 17 S
part R pins: 18 S
part S pins: 19 S
part T pins: 20 S
part U pins: 21 S
part V pins: 22 S
part W pins: 23 S
part X pins: 24 S
part Y pins: 25 S
part Z pins: 26 S
part 27 pins: 27 S
part 28 pins: 28 S
part 29 pins: 29 S
part 30 pins: 30 S
part 31 pins: 31 S
part 32 pins: 32 S
part 33 pins: 33 S
part 34 pins: 34 S
part 35 pins: 35 S
part 36 pins: 36 S
part 37 pins: 37 S
part 38 pins: 38 S
part 39 pins: 39 S
part 40 pins: 40 S
part 41 pins: 41 S
part 42 pins: 42 S
part 43 pins: 43 S
part 44 pins: 44 S
part 45 pins: 45 S
part 46 pins: 46 S
part 47 pins: 47 S
part 48 pins: 48 S
part 49 pins: 49 S
part 50 pins: 50 S
part 51 pins: 51 S
part 52 pins: 52 S
part 53 pins: 53 S
part 54 pins: 54 S
part 55 pins: 55 S
part 56 pins: 56 S
part 57 pins: 57 S
part 58 pins: 58 S
part 59 pins: 59 S
part 60 pins: 60 S
part 61 pins: 61 S
part 62 pins: 62 S
part 63 pins: 63 S
part 64 pins: 64 S
part 65 pins: 65 S
part 66 pins: 66 S
part 67 pins: 67 S
part 68 pins: 68 S
part 69 pins: 69 S
part 70 pins: 70 S
part 71 pins: 71 S
part 72 pins: 72 S
part 73 pins: 73 S
part 74 pins: 74 S
part 75 pins: 75 S
part 76 pins: 76 S
part 77 pins: 77 S
part 78 pins: 78 S
part 79 pins: 79 S
part 80 pins: 80 S
part 81 pins: 81 S
part 82 pins: 82 S
part 83 pins: 83 S
part 84 pins: 84 S
part 85 pins: 85 S
part 86 pins: 86 S
part 87 pins: 87 S
part 88 pins: 88 S
part 89 pins: 89 S
part 90 pins: 90 S
part 91 pins: 91 S
part 92 pins: 92 S
part 93 pins: 93 S
part 94 pins: 94 S
part 95 pins: 95 S
part 96 pins: 96 S
part 97 pins: 97 S
part 98 pins: 98 S
part 99 pins: 99 S
part 100 pins: 100 S

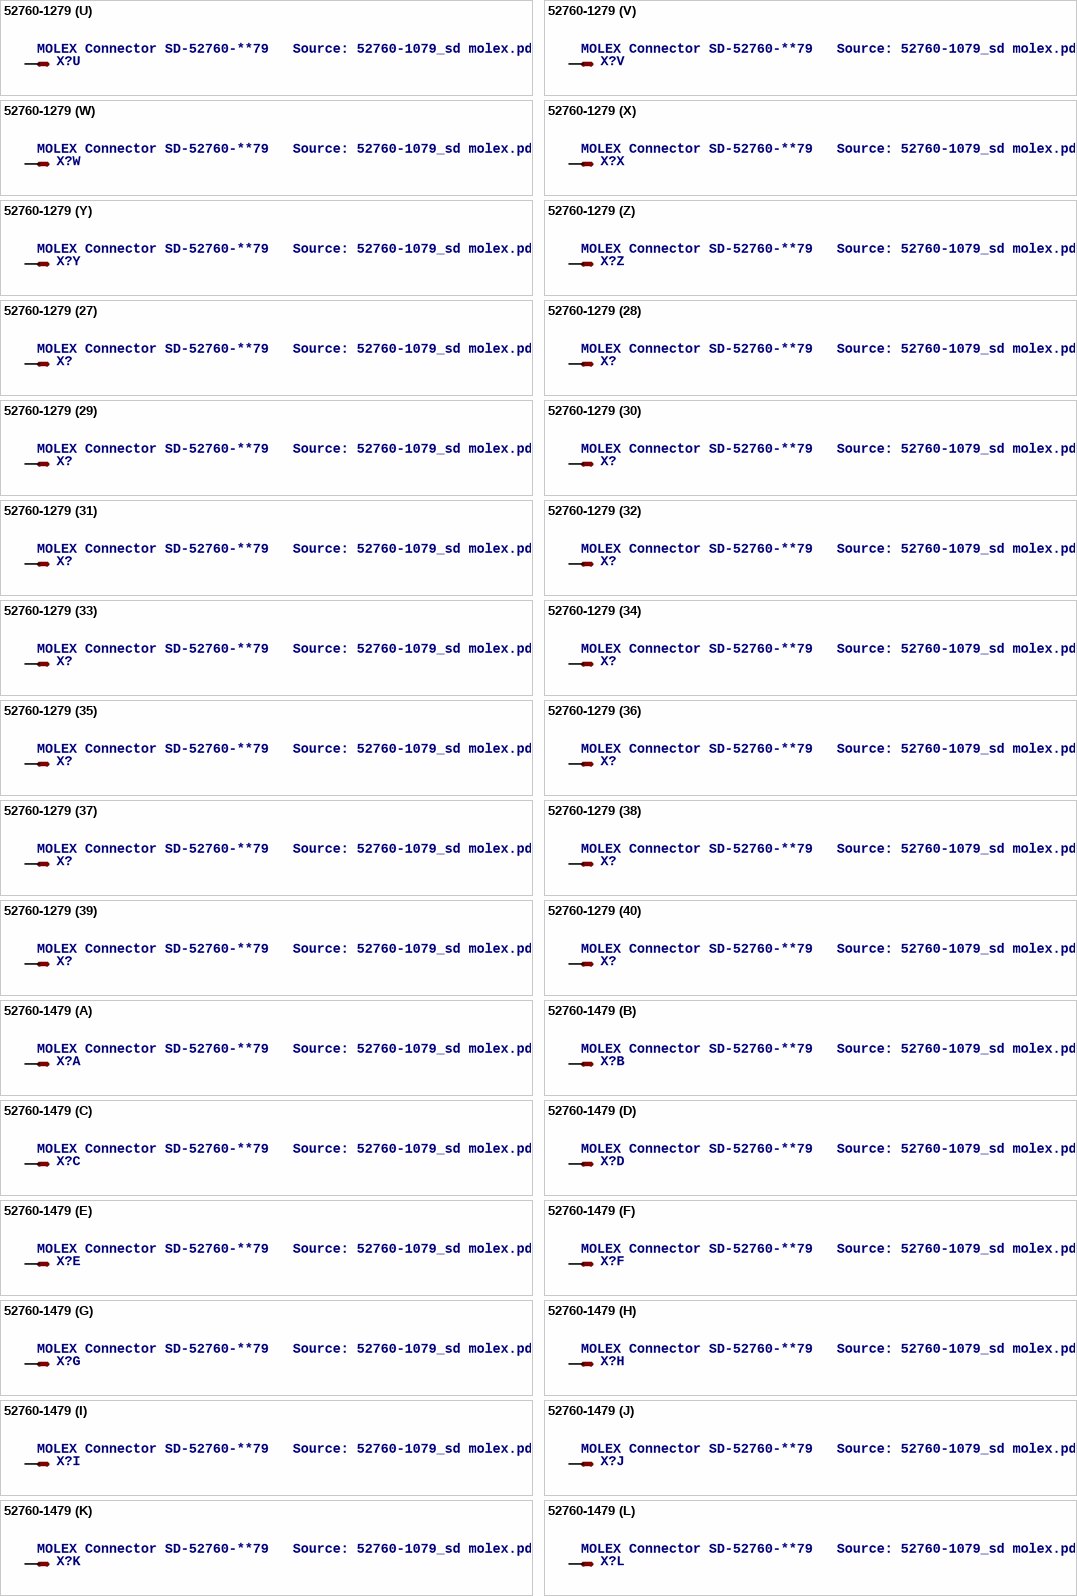
[diagram p62: symbols 52760-1279 to 52760-1479]

## 52760-1279
designator X?, comment MOLEX Connector SD-52760-**79   Source: 52760-1079_sd molex.pdf
OC_FARNELL: unknown; OC_NEWARK: unknown
footprint 52760-1279
part A pins: 1 S
part B pins: 2 S
part C pins: 3 S
part D pins: 4 S
part E pins: 5 S
part F pins: 6 S
part G pins: 7 S
part H pins: 8 S
part I pins: 9 S
part J pins: 10 S
part K pins: 11 S
part L pins: 12 S
part M pins: 13 S
part N pins: 14 S
part O pins: 15 S
part P pins: 16 S
part Q pins: 17 S
part R pins: 18 S
part S pins: 19 S
part T pins: 20 S
part U pins: 21 S
part V pins: 22 S
part W pins: 23 S
part X pins: 24 S
part Y pins: 25 S
part Z pins: 26 S
part 27 pins: 27 S
part 28 pins: 28 S
part 29 pins: 29 S
part 30 pins: 30 S
part 31 pins: 31 S
part 32 pins: 32 S
part 33 pins: 33 S
part 34 pins: 34 S
part 35 pins: 35 S
part 36 pins: 36 S
part 37 pins: 37 S
part 38 pins: 38 S
part 39 pins: 39 S
part 40 pins: 40 S
part 41 pins: 41 S
part 42 pins: 42 S
part 43 pins: 43 S
part 44 pins: 44 S
part 45 pins: 45 S
part 46 pins: 46 S
part 47 pins: 47 S
part 48 pins: 48 S
part 49 pins: 49 S
part 50 pins: 50 S
part 51 pins: 51 S
part 52 pins: 52 S
part 53 pins: 53 S
part 54 pins: 54 S
part 55 pins: 55 S
part 56 pins: 56 S
part 57 pins: 57 S
part 58 pins: 58 S
part 59 pins: 59 S
part 60 pins: 60 S
part 61 pins: 61 S
part 62 pins: 62 S
part 63 pins: 63 S
part 64 pins: 64 S
part 65 pins: 65 S
part 66 pins: 66 S
part 67 pins: 67 S
part 68 pins: 68 S
part 69 pins: 69 S
part 70 pins: 70 S
part 71 pins: 71 S
part 72 pins: 72 S
part 73 pins: 73 S
part 74 pins: 74 S
part 75 pins: 75 S
part 76 pins: 76 S
part 77 pins: 77 S
part 78 pins: 78 S
part 79 pins: 79 S
part 80 pins: 80 S
part 81 pins: 81 S
part 82 pins: 82 S
part 83 pins: 83 S
part 84 pins: 84 S
part 85 pins: 85 S
part 86 pins: 86 S
part 87 pins: 87 S
part 88 pins: 88 S
part 89 pins: 89 S
part 90 pins: 90 S
part 91 pins: 91 S
part 92 pins: 92 S
part 93 pins: 93 S
part 94 pins: 94 S
part 95 pins: 95 S
part 96 pins: 96 S
part 97 pins: 97 S
part 98 pins: 98 S
part 99 pins: 99 S
part 100 pins: 100 S
part 101 pins: 101 S
part 102 pins: 102 S
part 103 pins: 103 S
part 104 pins: 104 S
part 105 pins: 105 S
part 106 pins: 106 S
part 107 pins: 107 S
part 108 pins: 108 S
part 109 pins: 109 S
part 110 pins: 110 S
part 111 pins: 111 S
part 112 pins: 112 S
part 113 pins: 113 S
part 114 pins: 114 S
part 115 pins: 115 S
part 116 pins: 116 S
part 117 pins: 117 S
part 118 pins: 118 S
part 119 pins: 119 S
part 120 pins: 120 S

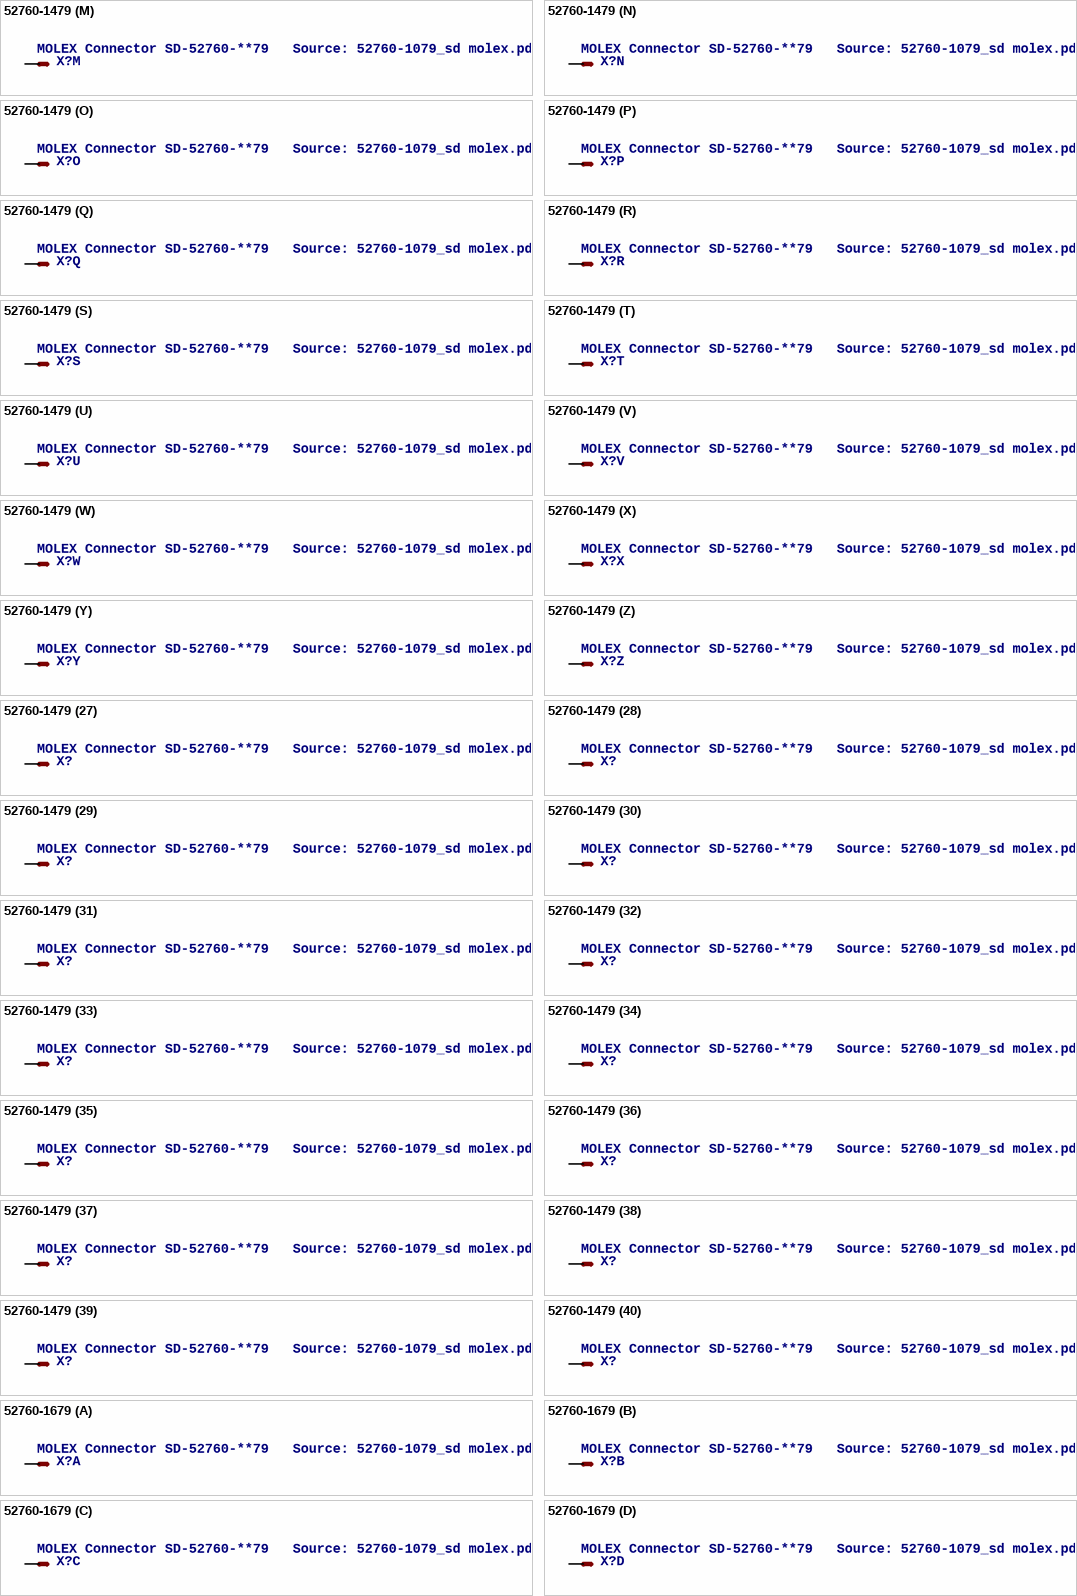
[diagram p63: symbols 52760-1479 to 52760-1679]

## 52760-1479
designator X?, comment MOLEX Connector SD-52760-**79   Source: 52760-1079_sd molex.pdf
MPN: 52760-1479; OC_FARNELL: unknown; OC_NEWARK: 92M6434
footprint 52760-1479
part A pins: 1 S
part B pins: 2 S
part C pins: 3 S
part D pins: 4 S
part E pins: 5 S
part F pins: 6 S
part G pins: 7 S
part H pins: 8 S
part I pins: 9 S
part J pins: 10 S
part K pins: 11 S
part L pins: 12 S
part M pins: 13 S
part N pins: 14 S
part O pins: 15 S
part P pins: 16 S
part Q pins: 17 S
part R pins: 18 S
part S pins: 19 S
part T pins: 20 S
part U pins: 21 S
part V pins: 22 S
part W pins: 23 S
part X pins: 24 S
part Y pins: 25 S
part Z pins: 26 S
part 27 pins: 27 S
part 28 pins: 28 S
part 29 pins: 29 S
part 30 pins: 30 S
part 31 pins: 31 S
part 32 pins: 32 S
part 33 pins: 33 S
part 34 pins: 34 S
part 35 pins: 35 S
part 36 pins: 36 S
part 37 pins: 37 S
part 38 pins: 38 S
part 39 pins: 39 S
part 40 pins: 40 S
part 41 pins: 41 S
part 42 pins: 42 S
part 43 pins: 43 S
part 44 pins: 44 S
part 45 pins: 45 S
part 46 pins: 46 S
part 47 pins: 47 S
part 48 pins: 48 S
part 49 pins: 49 S
part 50 pins: 50 S
part 51 pins: 51 S
part 52 pins: 52 S
part 53 pins: 53 S
part 54 pins: 54 S
part 55 pins: 55 S
part 56 pins: 56 S
part 57 pins: 57 S
part 58 pins: 58 S
part 59 pins: 59 S
part 60 pins: 60 S
part 61 pins: 61 S
part 62 pins: 62 S
part 63 pins: 63 S
part 64 pins: 64 S
part 65 pins: 65 S
part 66 pins: 66 S
part 67 pins: 67 S
part 68 pins: 68 S
part 69 pins: 69 S
part 70 pins: 70 S
part 71 pins: 71 S
part 72 pins: 72 S
part 73 pins: 73 S
part 74 pins: 74 S
part 75 pins: 75 S
part 76 pins: 76 S
part 77 pins: 77 S
part 78 pins: 78 S
part 79 pins: 79 S
part 80 pins: 80 S
part 81 pins: 81 S
part 82 pins: 82 S
part 83 pins: 83 S
part 84 pins: 84 S
part 85 pins: 85 S
part 86 pins: 86 S
part 87 pins: 87 S
part 88 pins: 88 S
part 89 pins: 89 S
part 90 pins: 90 S
part 91 pins: 91 S
part 92 pins: 92 S
part 93 pins: 93 S
part 94 pins: 94 S
part 95 pins: 95 S
part 96 pins: 96 S
part 97 pins: 97 S
part 98 pins: 98 S
part 99 pins: 99 S
part 100 pins: 100 S
part 101 pins: 101 S
part 102 pins: 102 S
part 103 pins: 103 S
part 104 pins: 104 S
part 105 pins: 105 S
part 106 pins: 106 S
part 107 pins: 107 S
part 108 pins: 108 S
part 109 pins: 109 S
part 110 pins: 110 S
part 111 pins: 111 S
part 112 pins: 112 S
part 113 pins: 113 S
part 114 pins: 114 S
part 115 pins: 115 S
part 116 pins: 116 S
part 117 pins: 117 S
part 118 pins: 118 S
part 119 pins: 119 S
part 120 pins: 120 S
part 121 pins: 121 S
part 122 pins: 122 S
part 123 pins: 123 S
part 124 pins: 124 S
part 125 pins: 125 S
part 126 pins: 126 S
part 127 pins: 127 S
part 128 pins: 128 S
part 129 pins: 129 S
part 130 pins: 130 S
part 131 pins: 131 S
part 132 pins: 132 S
part 133 pins: 133 S
part 134 pins: 134 S
part 135 pins: 135 S
part 136 pins: 136 S
part 137 pins: 137 S
part 138 pins: 138 S
part 139 pins: 139 S
part 140 pins: 140 S

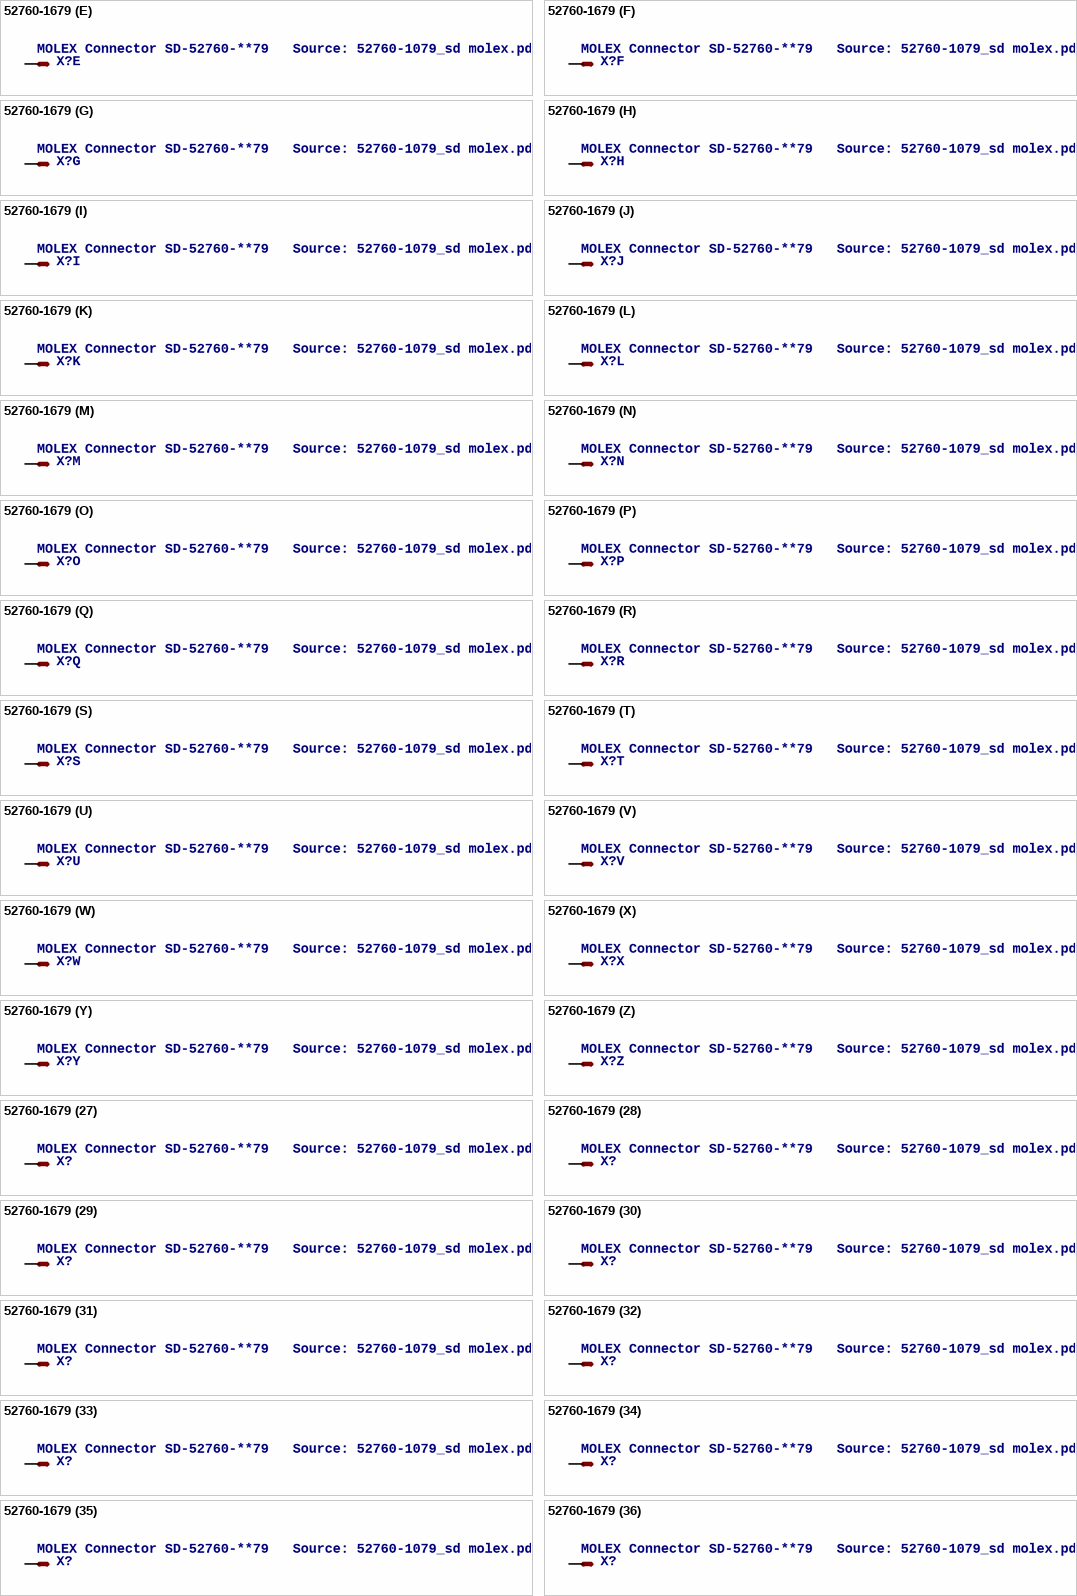
[diagram p64: symbol 52760-1679]

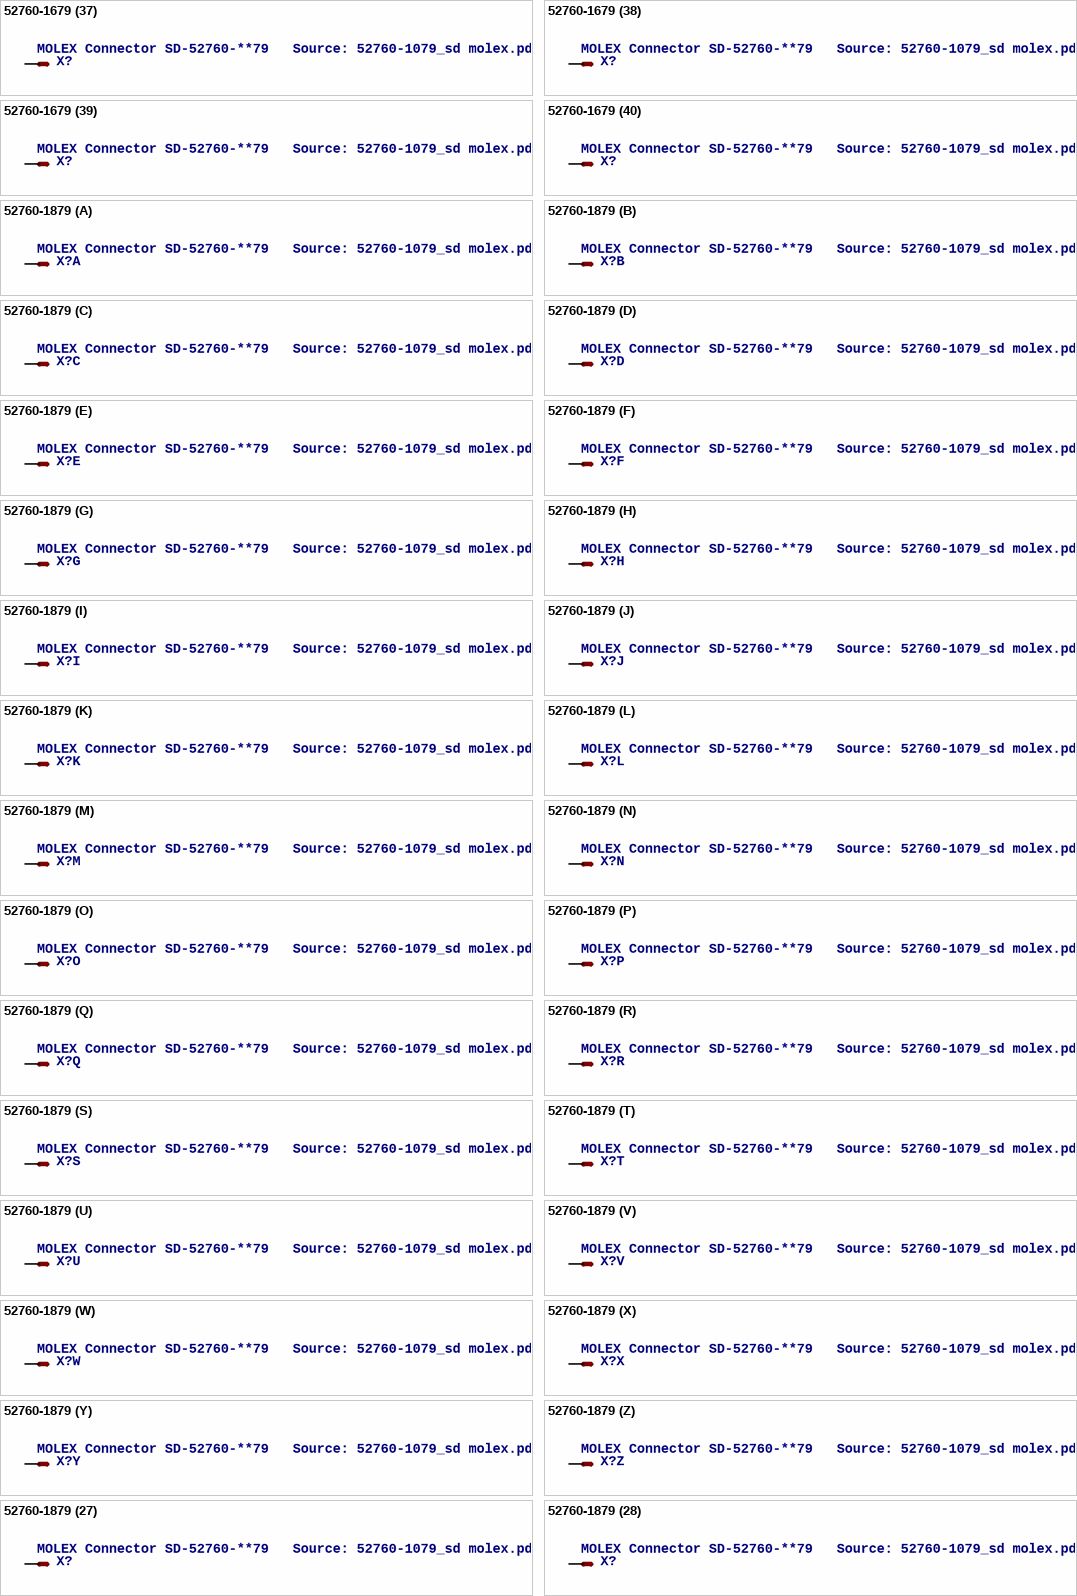
[diagram p65: symbols 52760-1679 to 52760-1879]

## 52760-1679
designator X?, comment MOLEX Connector SD-52760-**79   Source: 52760-1079_sd molex.pdf
MPN: 52760-1679; OC_FARNELL: unknown; OC_NEWARK: 42J8438
footprint 52760-1679
part A pins: 1 S
part B pins: 2 S
part C pins: 3 S
part D pins: 4 S
part E pins: 5 S
part F pins: 6 S
part G pins: 7 S
part H pins: 8 S
part I pins: 9 S
part J pins: 10 S
part K pins: 11 S
part L pins: 12 S
part M pins: 13 S
part N pins: 14 S
part O pins: 15 S
part P pins: 16 S
part Q pins: 17 S
part R pins: 18 S
part S pins: 19 S
part T pins: 20 S
part U pins: 21 S
part V pins: 22 S
part W pins: 23 S
part X pins: 24 S
part Y pins: 25 S
part Z pins: 26 S
part 27 pins: 27 S
part 28 pins: 28 S
part 29 pins: 29 S
part 30 pins: 30 S
part 31 pins: 31 S
part 32 pins: 32 S
part 33 pins: 33 S
part 34 pins: 34 S
part 35 pins: 35 S
part 36 pins: 36 S
part 37 pins: 37 S
part 38 pins: 38 S
part 39 pins: 39 S
part 40 pins: 40 S
part 41 pins: 41 S
part 42 pins: 42 S
part 43 pins: 43 S
part 44 pins: 44 S
part 45 pins: 45 S
part 46 pins: 46 S
part 47 pins: 47 S
part 48 pins: 48 S
part 49 pins: 49 S
part 50 pins: 50 S
part 51 pins: 51 S
part 52 pins: 52 S
part 53 pins: 53 S
part 54 pins: 54 S
part 55 pins: 55 S
part 56 pins: 56 S
part 57 pins: 57 S
part 58 pins: 58 S
part 59 pins: 59 S
part 60 pins: 60 S
part 61 pins: 61 S
part 62 pins: 62 S
part 63 pins: 63 S
part 64 pins: 64 S
part 65 pins: 65 S
part 66 pins: 66 S
part 67 pins: 67 S
part 68 pins: 68 S
part 69 pins: 69 S
part 70 pins: 70 S
part 71 pins: 71 S
part 72 pins: 72 S
part 73 pins: 73 S
part 74 pins: 74 S
part 75 pins: 75 S
part 76 pins: 76 S
part 77 pins: 77 S
part 78 pins: 78 S
part 79 pins: 79 S
part 80 pins: 80 S
part 81 pins: 81 S
part 82 pins: 82 S
part 83 pins: 83 S
part 84 pins: 84 S
part 85 pins: 85 S
part 86 pins: 86 S
part 87 pins: 87 S
part 88 pins: 88 S
part 89 pins: 89 S
part 90 pins: 90 S
part 91 pins: 91 S
part 92 pins: 92 S
part 93 pins: 93 S
part 94 pins: 94 S
part 95 pins: 95 S
part 96 pins: 96 S
part 97 pins: 97 S
part 98 pins: 98 S
part 99 pins: 99 S
part 100 pins: 100 S
part 101 pins: 101 S
part 102 pins: 102 S
part 103 pins: 103 S
part 104 pins: 104 S
part 105 pins: 105 S
part 106 pins: 106 S
part 107 pins: 107 S
part 108 pins: 108 S
part 109 pins: 109 S
part 110 pins: 110 S
part 111 pins: 111 S
part 112 pins: 112 S
part 113 pins: 113 S
part 114 pins: 114 S
part 115 pins: 115 S
part 116 pins: 116 S
part 117 pins: 117 S
part 118 pins: 118 S
part 119 pins: 119 S
part 120 pins: 120 S
part 121 pins: 121 S
part 122 pins: 122 S
part 123 pins: 123 S
part 124 pins: 124 S
part 125 pins: 125 S
part 126 pins: 126 S
part 127 pins: 127 S
part 128 pins: 128 S
part 129 pins: 129 S
part 130 pins: 130 S
part 131 pins: 131 S
part 132 pins: 132 S
part 133 pins: 133 S
part 134 pins: 134 S
part 135 pins: 135 S
part 136 pins: 136 S
part 137 pins: 137 S
part 138 pins: 138 S
part 139 pins: 139 S
part 140 pins: 140 S
part 141 pins: 141 S
part 142 pins: 142 S
part 143 pins: 143 S
part 144 pins: 144 S
part 145 pins: 145 S
part 146 pins: 146 S
part 147 pins: 147 S
part 148 pins: 148 S
part 149 pins: 149 S
part 150 pins: 150 S
part 151 pins: 151 S
part 152 pins: 152 S
part 153 pins: 153 S
part 154 pins: 154 S
part 155 pins: 155 S
part 156 pins: 156 S
part 157 pins: 157 S
part 158 pins: 158 S
part 159 pins: 159 S
part 160 pins: 160 S

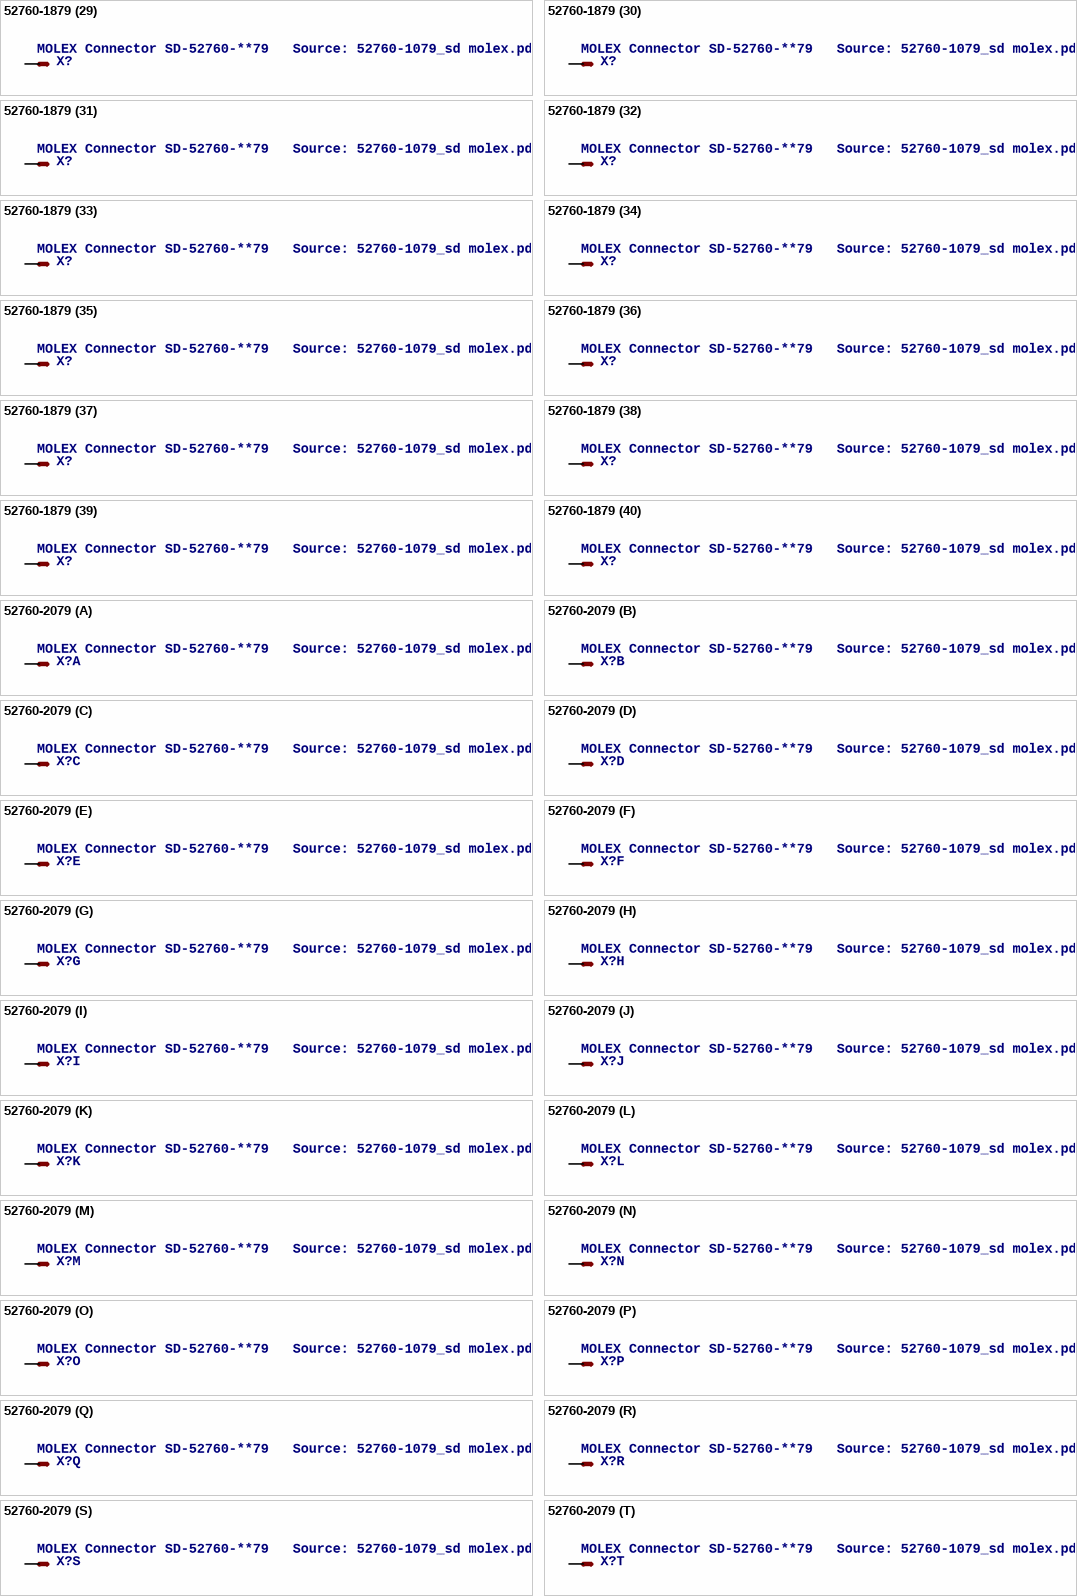
[diagram p66: symbols 52760-1879 to 52760-2079]

## 52760-1879
designator X?, comment MOLEX Connector SD-52760-**79   Source: 52760-1079_sd molex.pdf
MPN: 52760-1879; OC_FARNELL: unknown; OC_NEWARK: 92M6435
footprint 52760-1879
part A pins: 1 S
part B pins: 2 S
part C pins: 3 S
part D pins: 4 S
part E pins: 5 S
part F pins: 6 S
part G pins: 7 S
part H pins: 8 S
part I pins: 9 S
part J pins: 10 S
part K pins: 11 S
part L pins: 12 S
part M pins: 13 S
part N pins: 14 S
part O pins: 15 S
part P pins: 16 S
part Q pins: 17 S
part R pins: 18 S
part S pins: 19 S
part T pins: 20 S
part U pins: 21 S
part V pins: 22 S
part W pins: 23 S
part X pins: 24 S
part Y pins: 25 S
part Z pins: 26 S
part 27 pins: 27 S
part 28 pins: 28 S
part 29 pins: 29 S
part 30 pins: 30 S
part 31 pins: 31 S
part 32 pins: 32 S
part 33 pins: 33 S
part 34 pins: 34 S
part 35 pins: 35 S
part 36 pins: 36 S
part 37 pins: 37 S
part 38 pins: 38 S
part 39 pins: 39 S
part 40 pins: 40 S
part 41 pins: 41 S
part 42 pins: 42 S
part 43 pins: 43 S
part 44 pins: 44 S
part 45 pins: 45 S
part 46 pins: 46 S
part 47 pins: 47 S
part 48 pins: 48 S
part 49 pins: 49 S
part 50 pins: 50 S
part 51 pins: 51 S
part 52 pins: 52 S
part 53 pins: 53 S
part 54 pins: 54 S
part 55 pins: 55 S
part 56 pins: 56 S
part 57 pins: 57 S
part 58 pins: 58 S
part 59 pins: 59 S
part 60 pins: 60 S
part 61 pins: 61 S
part 62 pins: 62 S
part 63 pins: 63 S
part 64 pins: 64 S
part 65 pins: 65 S
part 66 pins: 66 S
part 67 pins: 67 S
part 68 pins: 68 S
part 69 pins: 69 S
part 70 pins: 70 S
part 71 pins: 71 S
part 72 pins: 72 S
part 73 pins: 73 S
part 74 pins: 74 S
part 75 pins: 75 S
part 76 pins: 76 S
part 77 pins: 77 S
part 78 pins: 78 S
part 79 pins: 79 S
part 80 pins: 80 S
part 81 pins: 81 S
part 82 pins: 82 S
part 83 pins: 83 S
part 84 pins: 84 S
part 85 pins: 85 S
part 86 pins: 86 S
part 87 pins: 87 S
part 88 pins: 88 S
part 89 pins: 89 S
part 90 pins: 90 S
part 91 pins: 91 S
part 92 pins: 92 S
part 93 pins: 93 S
part 94 pins: 94 S
part 95 pins: 95 S
part 96 pins: 96 S
part 97 pins: 97 S
part 98 pins: 98 S
part 99 pins: 99 S
part 100 pins: 100 S
part 101 pins: 101 S
part 102 pins: 102 S
part 103 pins: 103 S
part 104 pins: 104 S
part 105 pins: 105 S
part 106 pins: 106 S
part 107 pins: 107 S
part 108 pins: 108 S
part 109 pins: 109 S
part 110 pins: 110 S
part 111 pins: 111 S
part 112 pins: 112 S
part 113 pins: 113 S
part 114 pins: 114 S
part 115 pins: 115 S
part 116 pins: 116 S
part 117 pins: 117 S
part 118 pins: 118 S
part 119 pins: 119 S
part 120 pins: 120 S
part 121 pins: 121 S
part 122 pins: 122 S
part 123 pins: 123 S
part 124 pins: 124 S
part 125 pins: 125 S
part 126 pins: 126 S
part 127 pins: 127 S
part 128 pins: 128 S
part 129 pins: 129 S
part 130 pins: 130 S
part 131 pins: 131 S
part 132 pins: 132 S
part 133 pins: 133 S
part 134 pins: 134 S
part 135 pins: 135 S
part 136 pins: 136 S
part 137 pins: 137 S
part 138 pins: 138 S
part 139 pins: 139 S
part 140 pins: 140 S
part 141 pins: 141 S
part 142 pins: 142 S
part 143 pins: 143 S
part 144 pins: 144 S
part 145 pins: 145 S
part 146 pins: 146 S
part 147 pins: 147 S
part 148 pins: 148 S
part 149 pins: 149 S
part 150 pins: 150 S
part 151 pins: 151 S
part 152 pins: 152 S
part 153 pins: 153 S
part 154 pins: 154 S
part 155 pins: 155 S
part 156 pins: 156 S
part 157 pins: 157 S
part 158 pins: 158 S
part 159 pins: 159 S
part 160 pins: 160 S
part 161 pins: 161 S
part 162 pins: 162 S
part 163 pins: 163 S
part 164 pins: 164 S
part 165 pins: 165 S
part 166 pins: 166 S
part 167 pins: 167 S
part 168 pins: 168 S
part 169 pins: 169 S
part 170 pins: 170 S
part 171 pins: 171 S
part 172 pins: 172 S
part 173 pins: 173 S
part 174 pins: 174 S
part 175 pins: 175 S
part 176 pins: 176 S
part 177 pins: 177 S
part 178 pins: 178 S
part 179 pins: 179 S
part 180 pins: 180 S

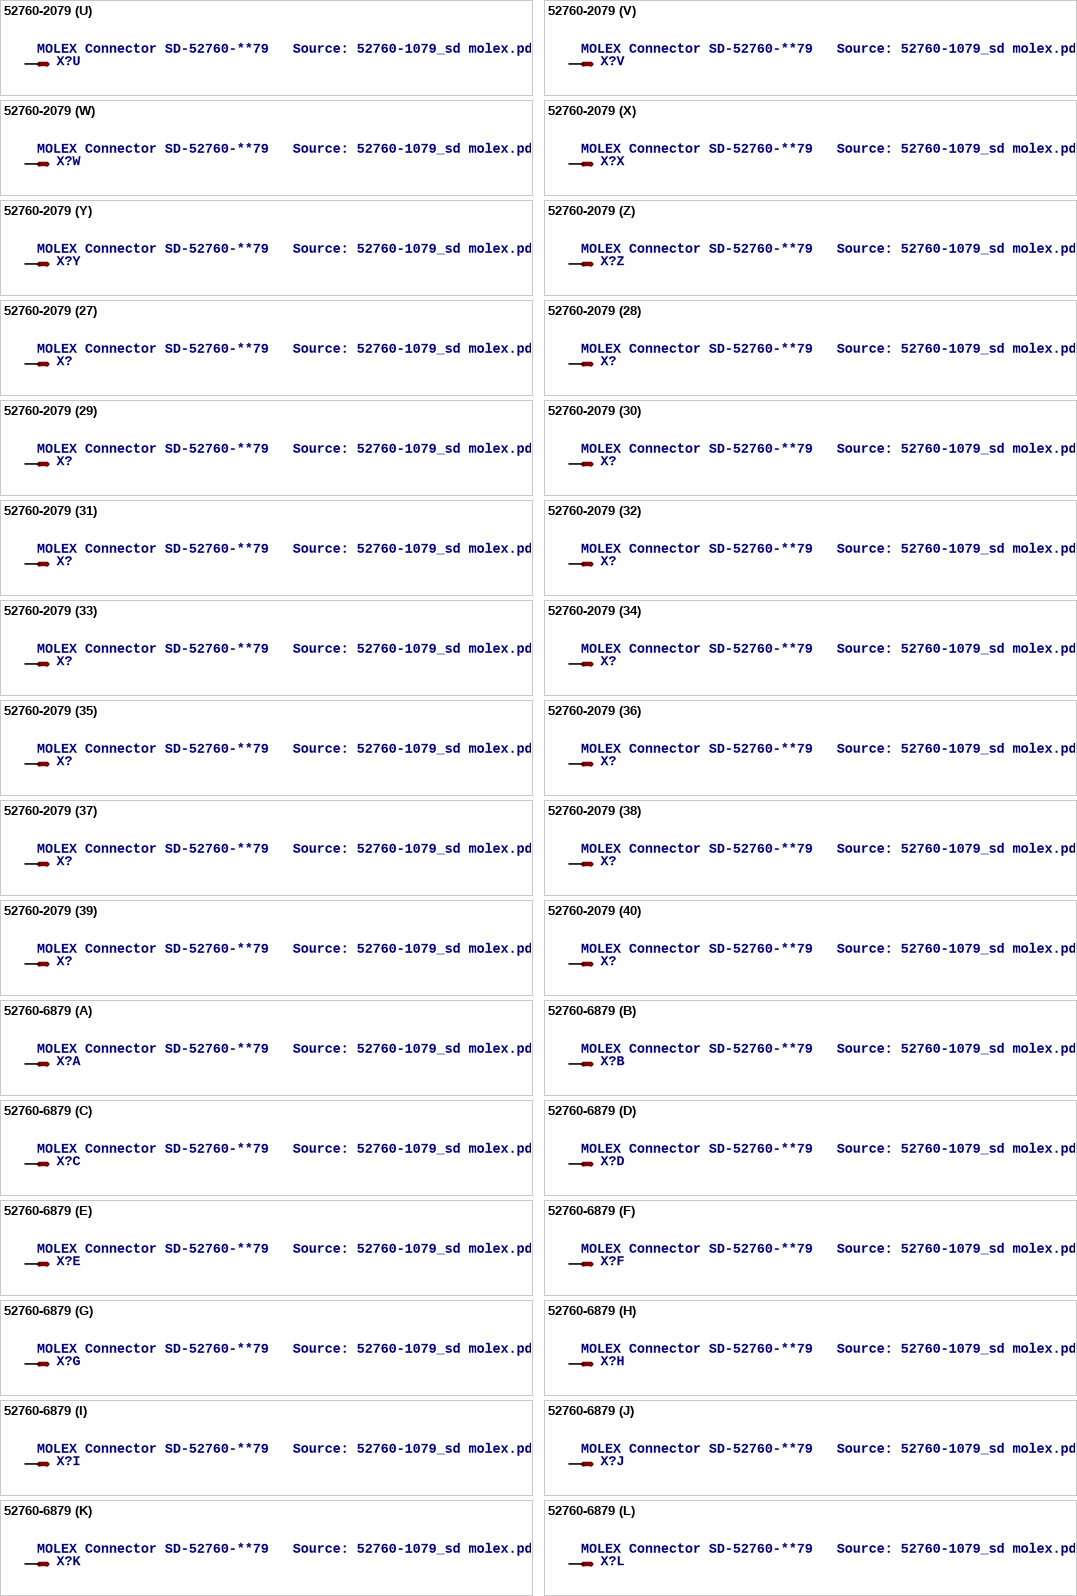
[diagram p67: symbols 52760-2079 to 52760-6879]

## 52760-2079
designator X?, comment MOLEX Connector SD-52760-**79   Source: 52760-1079_sd molex.pdf
MPN: 52760-2079; OC_FARNELL: unknown; OC_NEWARK: 92M6436
footprint 52760-2079
part A pins: 1 S
part B pins: 2 S
part C pins: 3 S
part D pins: 4 S
part E pins: 5 S
part F pins: 6 S
part G pins: 7 S
part H pins: 8 S
part I pins: 9 S
part J pins: 10 S
part K pins: 11 S
part L pins: 12 S
part M pins: 13 S
part N pins: 14 S
part O pins: 15 S
part P pins: 16 S
part Q pins: 17 S
part R pins: 18 S
part S pins: 19 S
part T pins: 20 S
part U pins: 21 S
part V pins: 22 S
part W pins: 23 S
part X pins: 24 S
part Y pins: 25 S
part Z pins: 26 S
part 27 pins: 27 S
part 28 pins: 28 S
part 29 pins: 29 S
part 30 pins: 30 S
part 31 pins: 31 S
part 32 pins: 32 S
part 33 pins: 33 S
part 34 pins: 34 S
part 35 pins: 35 S
part 36 pins: 36 S
part 37 pins: 37 S
part 38 pins: 38 S
part 39 pins: 39 S
part 40 pins: 40 S
part 41 pins: 41 S
part 42 pins: 42 S
part 43 pins: 43 S
part 44 pins: 44 S
part 45 pins: 45 S
part 46 pins: 46 S
part 47 pins: 47 S
part 48 pins: 48 S
part 49 pins: 49 S
part 50 pins: 50 S
part 51 pins: 51 S
part 52 pins: 52 S
part 53 pins: 53 S
part 54 pins: 54 S
part 55 pins: 55 S
part 56 pins: 56 S
part 57 pins: 57 S
part 58 pins: 58 S
part 59 pins: 59 S
part 60 pins: 60 S
part 61 pins: 61 S
part 62 pins: 62 S
part 63 pins: 63 S
part 64 pins: 64 S
part 65 pins: 65 S
part 66 pins: 66 S
part 67 pins: 67 S
part 68 pins: 68 S
part 69 pins: 69 S
part 70 pins: 70 S
part 71 pins: 71 S
part 72 pins: 72 S
part 73 pins: 73 S
part 74 pins: 74 S
part 75 pins: 75 S
part 76 pins: 76 S
part 77 pins: 77 S
part 78 pins: 78 S
part 79 pins: 79 S
part 80 pins: 80 S
part 81 pins: 81 S
part 82 pins: 82 S
part 83 pins: 83 S
part 84 pins: 84 S
part 85 pins: 85 S
part 86 pins: 86 S
part 87 pins: 87 S
part 88 pins: 88 S
part 89 pins: 89 S
part 90 pins: 90 S
part 91 pins: 91 S
part 92 pins: 92 S
part 93 pins: 93 S
part 94 pins: 94 S
part 95 pins: 95 S
part 96 pins: 96 S
part 97 pins: 97 S
part 98 pins: 98 S
part 99 pins: 99 S
part 100 pins: 100 S
part 101 pins: 101 S
part 102 pins: 102 S
part 103 pins: 103 S
part 104 pins: 104 S
part 105 pins: 105 S
part 106 pins: 106 S
part 107 pins: 107 S
part 108 pins: 108 S
part 109 pins: 109 S
part 110 pins: 110 S
part 111 pins: 111 S
part 112 pins: 112 S
part 113 pins: 113 S
part 114 pins: 114 S
part 115 pins: 115 S
part 116 pins: 116 S
part 117 pins: 117 S
part 118 pins: 118 S
part 119 pins: 119 S
part 120 pins: 120 S
part 121 pins: 121 S
part 122 pins: 122 S
part 123 pins: 123 S
part 124 pins: 124 S
part 125 pins: 125 S
part 126 pins: 126 S
part 127 pins: 127 S
part 128 pins: 128 S
part 129 pins: 129 S
part 130 pins: 130 S
part 131 pins: 131 S
part 132 pins: 132 S
part 133 pins: 133 S
part 134 pins: 134 S
part 135 pins: 135 S
part 136 pins: 136 S
part 137 pins: 137 S
part 138 pins: 138 S
part 139 pins: 139 S
part 140 pins: 140 S
part 141 pins: 141 S
part 142 pins: 142 S
part 143 pins: 143 S
part 144 pins: 144 S
part 145 pins: 145 S
part 146 pins: 146 S
part 147 pins: 147 S
part 148 pins: 148 S
part 149 pins: 149 S
part 150 pins: 150 S
part 151 pins: 151 S
part 152 pins: 152 S
part 153 pins: 153 S
part 154 pins: 154 S
part 155 pins: 155 S
part 156 pins: 156 S
part 157 pins: 157 S
part 158 pins: 158 S
part 159 pins: 159 S
part 160 pins: 160 S
part 161 pins: 161 S
part 162 pins: 162 S
part 163 pins: 163 S
part 164 pins: 164 S
part 165 pins: 165 S
part 166 pins: 166 S
part 167 pins: 167 S
part 168 pins: 168 S
part 169 pins: 169 S
part 170 pins: 170 S
part 171 pins: 171 S
part 172 pins: 172 S
part 173 pins: 173 S
part 174 pins: 174 S
part 175 pins: 175 S
part 176 pins: 176 S
part 177 pins: 177 S
part 178 pins: 178 S
part 179 pins: 179 S
part 180 pins: 180 S
part 181 pins: 181 S
part 182 pins: 182 S
part 183 pins: 183 S
part 184 pins: 184 S
part 185 pins: 185 S
part 186 pins: 186 S
part 187 pins: 187 S
part 188 pins: 188 S
part 189 pins: 189 S
part 190 pins: 190 S
part 191 pins: 191 S
part 192 pins: 192 S
part 193 pins: 193 S
part 194 pins: 194 S
part 195 pins: 195 S
part 196 pins: 196 S
part 197 pins: 197 S
part 198 pins: 198 S
part 199 pins: 199 S
part 200 pins: 200 S

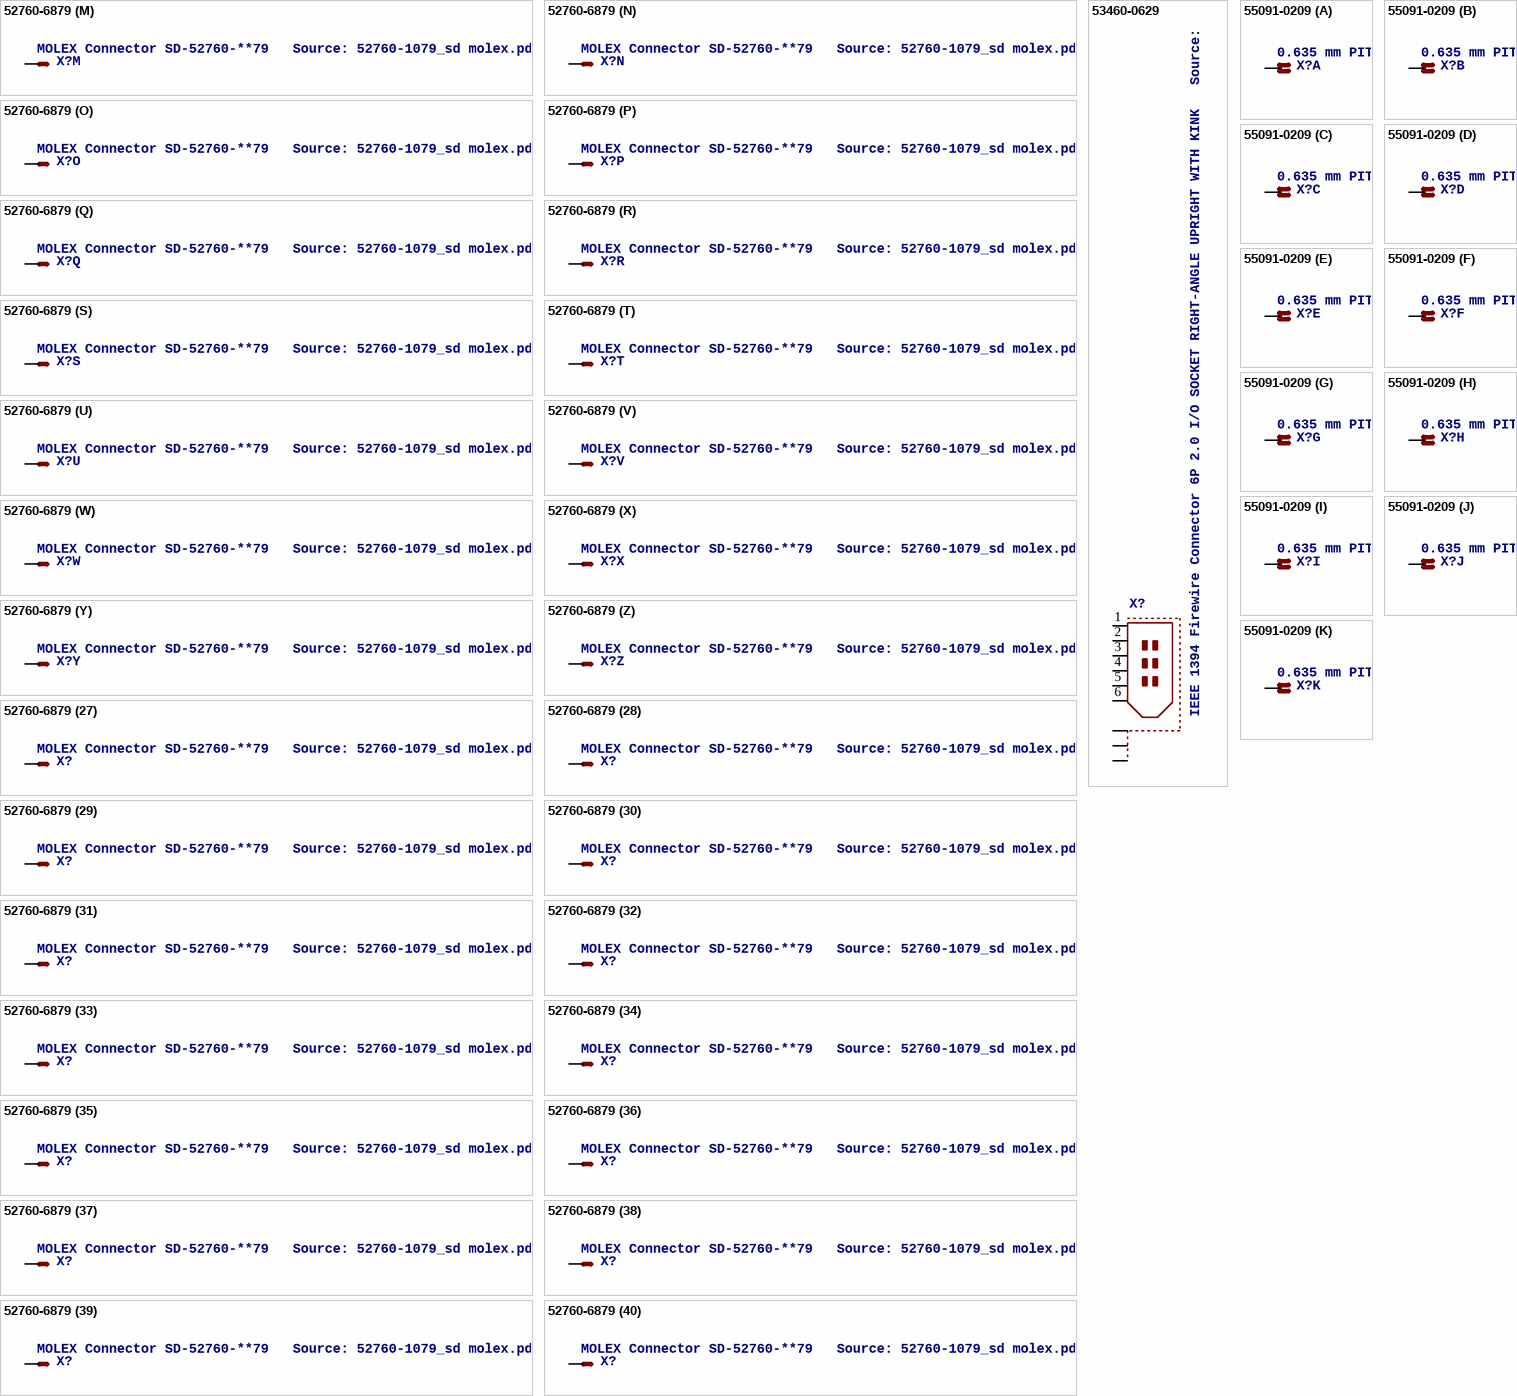
[diagram p68: symbols 52760-6879 to 55091-0209]

## 52760-6879
designator X?, comment MOLEX Connector SD-52760-**79   Source: 52760-1079_sd molex.pdf
OC_FARNELL: unknown; OC_NEWARK: unknown
footprint 52760-6879
part A pins: 1 S
part B pins: 2 S
part C pins: 3 S
part D pins: 4 S
part E pins: 5 S
part F pins: 6 S
part G pins: 7 S
part H pins: 8 S
part I pins: 9 S
part J pins: 10 S
part K pins: 11 S
part L pins: 12 S
part M pins: 13 S
part N pins: 14 S
part O pins: 15 S
part P pins: 16 S
part Q pins: 17 S
part R pins: 18 S
part S pins: 19 S
part T pins: 20 S
part U pins: 21 S
part V pins: 22 S
part W pins: 23 S
part X pins: 24 S
part Y pins: 25 S
part Z pins: 26 S
part 27 pins: 27 S
part 28 pins: 28 S
part 29 pins: 29 S
part 30 pins: 30 S
part 31 pins: 31 S
part 32 pins: 32 S
part 33 pins: 33 S
part 34 pins: 34 S
part 35 pins: 35 S
part 36 pins: 36 S
part 37 pins: 37 S
part 38 pins: 38 S
part 39 pins: 39 S
part 40 pins: 40 S
part 41 pins: 41 S
part 42 pins: 42 S
part 43 pins: 43 S
part 44 pins: 44 S
part 45 pins: 45 S
part 46 pins: 46 S
part 47 pins: 47 S
part 48 pins: 48 S
part 49 pins: 49 S
part 50 pins: 50 S
part 51 pins: 51 S
part 52 pins: 52 S
part 53 pins: 53 S
part 54 pins: 54 S
part 55 pins: 55 S
part 56 pins: 56 S
part 57 pins: 57 S
part 58 pins: 58 S
part 59 pins: 59 S
part 60 pins: 60 S
part 61 pins: 61 S
part 62 pins: 62 S
part 63 pins: 63 S
part 64 pins: 64 S
part 65 pins: 65 S
part 66 pins: 66 S
part 67 pins: 67 S
part 68 pins: 68 S

## 53460-0629
designator X?, comment IEEE 1394 Firewire Connector 6P 2.0 I/O SOCKET RIGHT-ANGLE UPRIGHT WITH KINK   Source: 53460-0629.pdf also DWG.NO. SD-53460-0621
MF: MOLEX; MPN: 53460-0629; OC_FARNELL: unknown; OC_NEWARK: 84K7541
footprint 53460-0629
pins: 1, 2, 3, 4, 5, 6, S1, S2, S3